# Altium integrated library Lattice CPLD ispMACH.IntLib: 663 symbols (part 42 of 48)
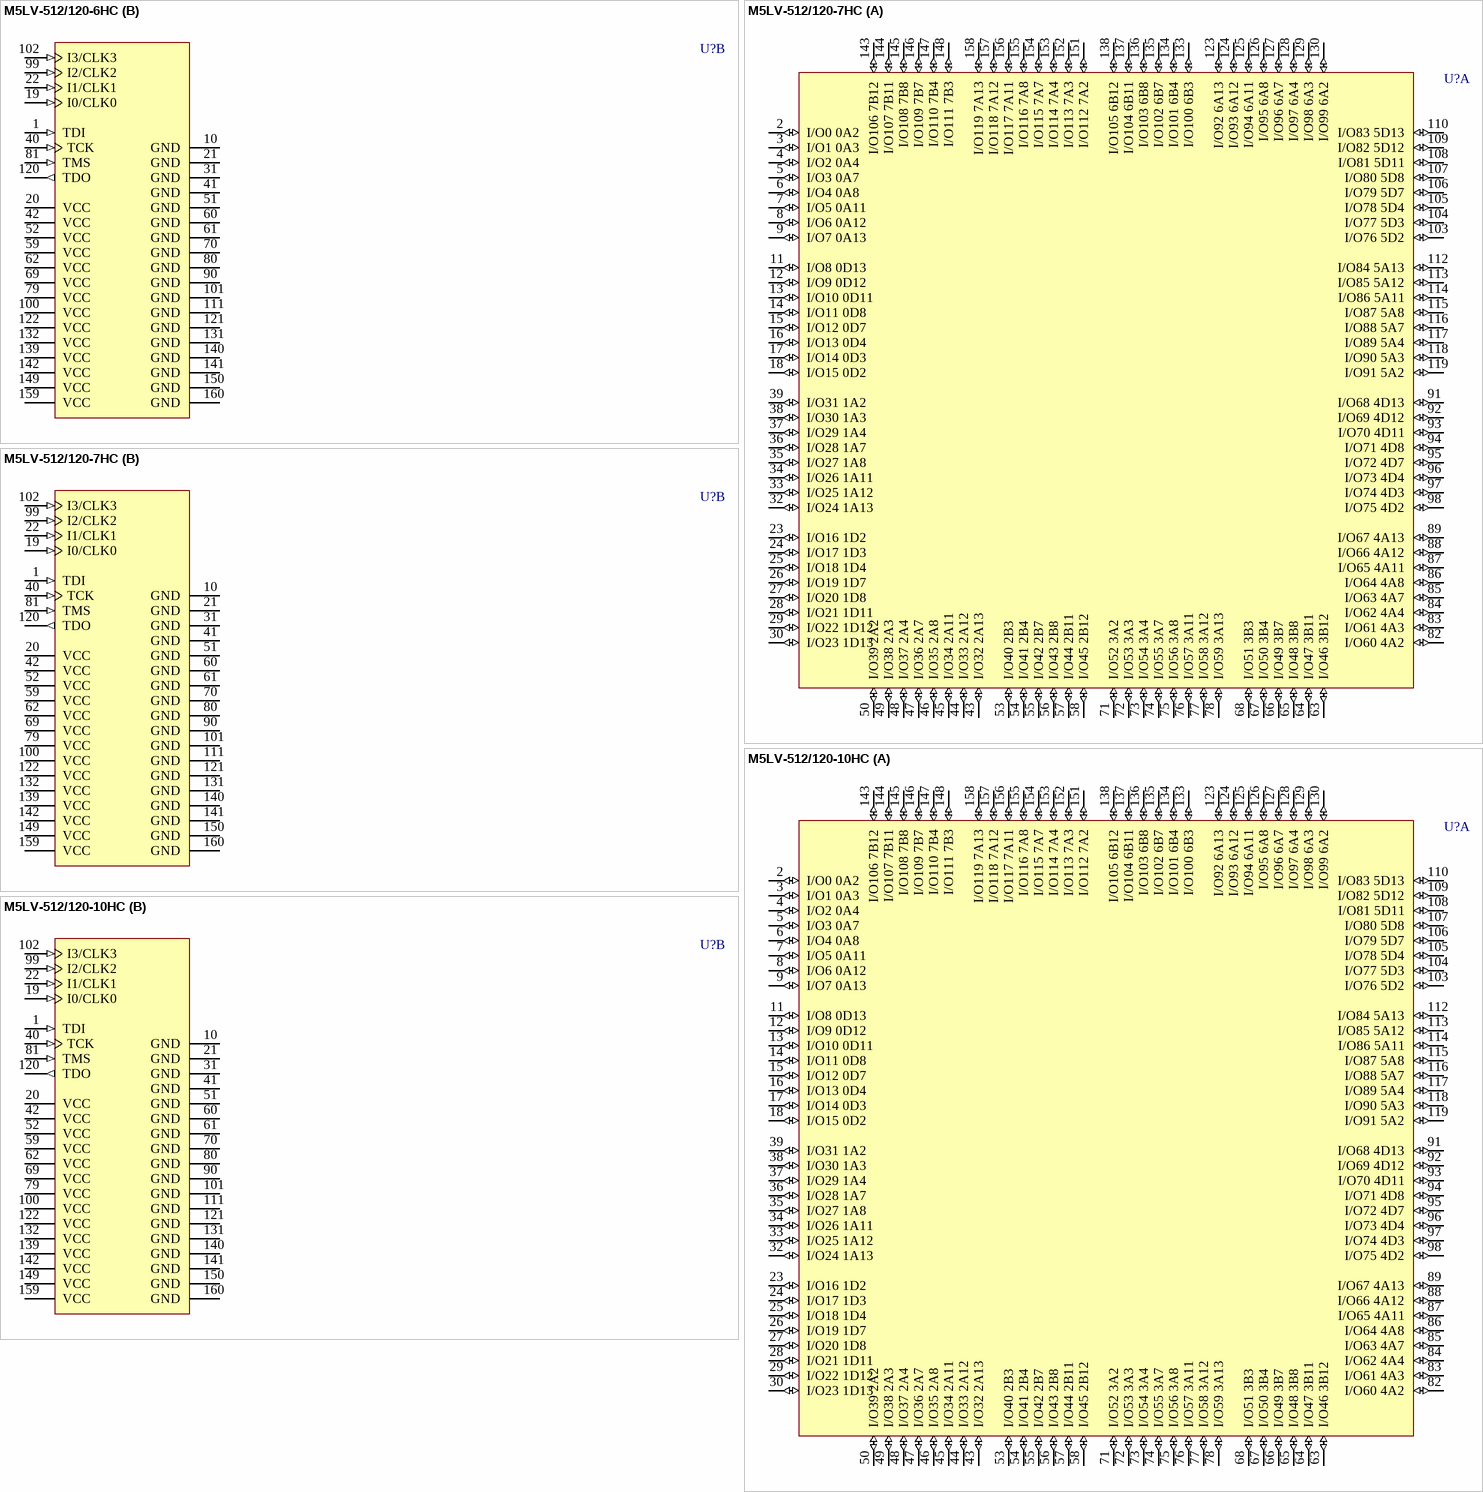
[diagram p347: symbols M5LV-512/120-6HC to M5LV-512/120-10HC]

## M5LV-512/120-6HC
designator U?
High-Density and High-I/O Complex PLD; Published: 23-Sep-2002; LatestRevisionDate: 13-Apr-2006; LatestRevisionNote: IPC-7351 Footprint Added.; DatasheetVersion: Sep-2000; PackageVersion: May-1999; PackageReference: MQFP160; Publisher: Altium Limited; PackageDescription: 160-Pin Quad Flat Pack 0.65 mm Pitch; Code_IPC: QFP65P3120X3120-160; ComponentLink1Description: Manufacturer Link; ComponentLink1URL: http://www.latticesemi.com/products/mature/index.cfm; ComponentLink2Description: Datasheet; ComponentLink2URL: http://www.latticesemi.com/lit/docs/datasheets/cpld/mach5.pdf
footprint MQFP160_N (QFP, 160-Leads, Body 27.7 x 27.7mm, Pitch 0.65mm, IPC Medium Density)
footprint MQFP160_L (QFP, 160-Leads, Body 27.7 x 27.7mm, Pitch 0.65mm, IPC High Density)
footprint MQFP160_M (QFP, 160-Leads, Body 27.7 x 27.7mm, Pitch 0.65mm, IPC Low Density)
3D model M5LV-MQFP160 (160-Pin Quad Flat Pack 0.65 mm Pitch)
part A pins: 2 I/O0 0A2 (io), 3 I/O1 0A3 (io), 4 I/O2 0A4 (io), 5 I/O3 0A7 (io), 6 I/O4 0A8 (io), 7 I/O5 0A11 (io), 8 I/O6 0A12 (io), 9 I/O7 0A13 (io), 11 I/O8 0D13 (io), 12 I/O9 0D12 (io), 13 I/O10 0D11 (io), 14 I/O11 0D8 (io), 15 I/O12 0D7 (io), 16 I/O13 0D4 (io), 17 I/O14 0D3 (io), 18 I/O15 0D2 (io), 23 I/O16 1D2 (io), 24 I/O17 1D3 (io), 25 I/O18 1D4 (io), 26 I/O19 1D7 (io), 27 I/O20 1D8 (io), 28 I/O21 1D11 (io), 29 I/O22 1D12 (io), 30 I/O23 1D13 (io), 32 I/O24 1A13 (io), 33 I/O25 1A12 (io), 34 I/O26 1A11 (io), 35 I/O27 1A8 (io), 36 I/O28 1A7 (io), 37 I/O29 1A4 (io), 38 I/O30 1A3 (io), 39 I/O31 1A2 (io), 43 I/O32 2A13 (io), 44 I/O33 2A12 (io), 45 I/O34 2A11 (io), 46 I/O35 2A8 (io), 47 I/O36 2A7 (io), 48 I/O37 2A4 (io), 49 I/O38 2A3 (io), 50 I/O39 2A2 (io), 53 I/O40 2B3 (io), 54 I/O41 2B4 (io), 55 I/O42 2B7 (io), 56 I/O43 2B8 (io), 57 I/O44 2B11 (io), 58 I/O45 2B12 (io), 63 I/O46 3B12 (io), 64 I/O47 3B11 (io), 65 I/O48 3B8 (io), 66 I/O49 3B7 (io), 67 I/O50 3B4 (io), 68 I/O51 3B3 (io), 71 I/O52 3A2 (io), 72 I/O53 3A3 (io), 73 I/O54 3A4 (io), 74 I/O55 3A7 (io), 75 I/O56 3A8 (io), 76 I/O57 3A11 (io), 77 I/O58 3A12 (io), 78 I/O59 3A13 (io), 82 I/O60 4A2 (io), 83 I/O61 4A3 (io), 84 I/O62 4A4 (io), 85 I/O63 4A7 (io), 86 I/O64 4A8 (io), 87 I/O65 4A11 (io), 88 I/O66 4A12 (io), 89 I/O67 4A13 (io), 91 I/O68 4D13 (io), 92 I/O69 4D12 (io), 93 I/O70 4D11 (io), 94 I/O71 4D8 (io), 95 I/O72 4D7 (io), 96 I/O73 4D4 (io), 97 I/O74 4D3 (io), 98 I/O75 4D2 (io), 103 I/O76 5D2 (io), 104 I/O77 5D3 (io), 105 I/O78 5D4 (io), 106 I/O79 5D7 (io), 107 I/O80 5D8 (io), 108 I/O81 5D11 (io), 109 I/O82 5D12 (io), 110 I/O83 5D13 (io), 112 I/O84 5A13 (io), 113 I/O85 5A12 (io), 114 I/O86 5A11 (io), 115 I/O87 5A8 (io), 116 I/O88 5A7 (io), 117 I/O89 5A4 (io), 118 I/O90 5A3 (io), 119 I/O91 5A2 (io), 123 I/O92 6A13 (io), 124 I/O93 6A12 (io), 125 I/O94 6A11 (io), 126 I/O95 6A8 (io), 127 I/O96 6A7 (io), 128 I/O97 6A4 (io), 129 I/O98 6A3 (io), 130 I/O99 6A2 (io), 133 I/O100 6B3 (io), 134 I/O101 6B4 (io), 135 I/O102 6B7 (io), 136 I/O103 6B8 (io), 137 I/O104 6B11 (io), 138 I/O105 6B12 (io), 143 I/O106 7B12 (io), 144 I/O107 7B11 (io), 145 I/O108 7B8 (io), 146 I/O109 7B7 (io), 147 I/O110 7B4 (io), 148 I/O111 7B3 (io), 151 I/O112 7A2 (io), 152 I/O113 7A3 (io), 153 I/O114 7A4 (io), 154 I/O115 7A7 (io), 155 I/O116 7A8 (io), 156 I/O117 7A11 (io), 157 I/O118 7A12 (io), 158 I/O119 7A13 (io)
part B pins: 1 TDI (in), 10 GND (power), 19 I0/CLK0 (in), 20 VCC (power), 21 GND (power), 22 I1/CLK1 (in), 31 GND (power), 40 TCK (in), 41 GND (power), 42 VCC (power), 51 GND (power), 52 VCC (power), 59 VCC (power), 60 GND (power), 61 GND (power), 62 VCC (power), 69 VCC (power), 70 GND (power), 79 VCC (power), 80 GND (power), 81 TMS (in), 90 GND (power), 99 I2/CLK2 (in), 100 VCC (power), 101 GND (power), 102 I3/CLK3 (in), 111 GND (power), 120 TDO (out), 121 GND (power), 122 VCC (power), 131 GND (power), 132 VCC (power), 139 VCC (power), 140 GND (power), 141 GND (power), 142 VCC (power), 149 VCC (power), 150 GND (power), 159 VCC (power), 160 GND (power)

## M5LV-512/120-7HC
designator U?
High-Density and High-I/O Complex PLD; Published: 23-Sep-2002; LatestRevisionDate: 13-Apr-2006; LatestRevisionNote: IPC-7351 Footprint Added.; DatasheetVersion: Sep-2000; PackageVersion: May-1999; PackageReference: MQFP160; Publisher: Altium Limited; PackageDescription: 160-Pin Quad Flat Pack 0.65 mm Pitch; Code_IPC: QFP65P3120X3120-160; ComponentLink1Description: Manufacturer Link; ComponentLink1URL: http://www.latticesemi.com/products/mature/index.cfm; ComponentLink2Description: Datasheet; ComponentLink2URL: http://www.latticesemi.com/lit/docs/datasheets/cpld/mach5.pdf
footprint MQFP160_N (QFP, 160-Leads, Body 27.7 x 27.7mm, Pitch 0.65mm, IPC Medium Density)
footprint MQFP160_L (QFP, 160-Leads, Body 27.7 x 27.7mm, Pitch 0.65mm, IPC High Density)
footprint MQFP160_M (QFP, 160-Leads, Body 27.7 x 27.7mm, Pitch 0.65mm, IPC Low Density)
3D model M5LV-MQFP160 (160-Pin Quad Flat Pack 0.65 mm Pitch)
part A pins: 2 I/O0 0A2 (io), 3 I/O1 0A3 (io), 4 I/O2 0A4 (io), 5 I/O3 0A7 (io), 6 I/O4 0A8 (io), 7 I/O5 0A11 (io), 8 I/O6 0A12 (io), 9 I/O7 0A13 (io), 11 I/O8 0D13 (io), 12 I/O9 0D12 (io), 13 I/O10 0D11 (io), 14 I/O11 0D8 (io), 15 I/O12 0D7 (io), 16 I/O13 0D4 (io), 17 I/O14 0D3 (io), 18 I/O15 0D2 (io), 23 I/O16 1D2 (io), 24 I/O17 1D3 (io), 25 I/O18 1D4 (io), 26 I/O19 1D7 (io), 27 I/O20 1D8 (io), 28 I/O21 1D11 (io), 29 I/O22 1D12 (io), 30 I/O23 1D13 (io), 32 I/O24 1A13 (io), 33 I/O25 1A12 (io), 34 I/O26 1A11 (io), 35 I/O27 1A8 (io), 36 I/O28 1A7 (io), 37 I/O29 1A4 (io), 38 I/O30 1A3 (io), 39 I/O31 1A2 (io), 43 I/O32 2A13 (io), 44 I/O33 2A12 (io), 45 I/O34 2A11 (io), 46 I/O35 2A8 (io), 47 I/O36 2A7 (io), 48 I/O37 2A4 (io), 49 I/O38 2A3 (io), 50 I/O39 2A2 (io), 53 I/O40 2B3 (io), 54 I/O41 2B4 (io), 55 I/O42 2B7 (io), 56 I/O43 2B8 (io), 57 I/O44 2B11 (io), 58 I/O45 2B12 (io), 63 I/O46 3B12 (io), 64 I/O47 3B11 (io), 65 I/O48 3B8 (io), 66 I/O49 3B7 (io), 67 I/O50 3B4 (io), 68 I/O51 3B3 (io), 71 I/O52 3A2 (io), 72 I/O53 3A3 (io), 73 I/O54 3A4 (io), 74 I/O55 3A7 (io), 75 I/O56 3A8 (io), 76 I/O57 3A11 (io), 77 I/O58 3A12 (io), 78 I/O59 3A13 (io), 82 I/O60 4A2 (io), 83 I/O61 4A3 (io), 84 I/O62 4A4 (io), 85 I/O63 4A7 (io), 86 I/O64 4A8 (io), 87 I/O65 4A11 (io), 88 I/O66 4A12 (io), 89 I/O67 4A13 (io), 91 I/O68 4D13 (io), 92 I/O69 4D12 (io), 93 I/O70 4D11 (io), 94 I/O71 4D8 (io), 95 I/O72 4D7 (io), 96 I/O73 4D4 (io), 97 I/O74 4D3 (io), 98 I/O75 4D2 (io), 103 I/O76 5D2 (io), 104 I/O77 5D3 (io), 105 I/O78 5D4 (io), 106 I/O79 5D7 (io), 107 I/O80 5D8 (io), 108 I/O81 5D11 (io), 109 I/O82 5D12 (io), 110 I/O83 5D13 (io), 112 I/O84 5A13 (io), 113 I/O85 5A12 (io), 114 I/O86 5A11 (io), 115 I/O87 5A8 (io), 116 I/O88 5A7 (io), 117 I/O89 5A4 (io), 118 I/O90 5A3 (io), 119 I/O91 5A2 (io), 123 I/O92 6A13 (io), 124 I/O93 6A12 (io), 125 I/O94 6A11 (io), 126 I/O95 6A8 (io), 127 I/O96 6A7 (io), 128 I/O97 6A4 (io), 129 I/O98 6A3 (io), 130 I/O99 6A2 (io), 133 I/O100 6B3 (io), 134 I/O101 6B4 (io), 135 I/O102 6B7 (io), 136 I/O103 6B8 (io), 137 I/O104 6B11 (io), 138 I/O105 6B12 (io), 143 I/O106 7B12 (io), 144 I/O107 7B11 (io), 145 I/O108 7B8 (io), 146 I/O109 7B7 (io), 147 I/O110 7B4 (io), 148 I/O111 7B3 (io), 151 I/O112 7A2 (io), 152 I/O113 7A3 (io), 153 I/O114 7A4 (io), 154 I/O115 7A7 (io), 155 I/O116 7A8 (io), 156 I/O117 7A11 (io), 157 I/O118 7A12 (io), 158 I/O119 7A13 (io)
part B pins: 1 TDI (in), 10 GND (power), 19 I0/CLK0 (in), 20 VCC (power), 21 GND (power), 22 I1/CLK1 (in), 31 GND (power), 40 TCK (in), 41 GND (power), 42 VCC (power), 51 GND (power), 52 VCC (power), 59 VCC (power), 60 GND (power), 61 GND (power), 62 VCC (power), 69 VCC (power), 70 GND (power), 79 VCC (power), 80 GND (power), 81 TMS (in), 90 GND (power), 99 I2/CLK2 (in), 100 VCC (power), 101 GND (power), 102 I3/CLK3 (in), 111 GND (power), 120 TDO (out), 121 GND (power), 122 VCC (power), 131 GND (power), 132 VCC (power), 139 VCC (power), 140 GND (power), 141 GND (power), 142 VCC (power), 149 VCC (power), 150 GND (power), 159 VCC (power), 160 GND (power)

## M5LV-512/120-10HC
designator U?
High-Density and High-I/O Complex PLD; Published: 23-Sep-2002; LatestRevisionDate: 13-Apr-2006; LatestRevisionNote: IPC-7351 Footprint Added.; DatasheetVersion: Sep-2000; PackageVersion: May-1999; PackageReference: MQFP160; Publisher: Altium Limited; PackageDescription: 160-Pin Quad Flat Pack 0.65 mm Pitch; Code_IPC: QFP65P3120X3120-160; ComponentLink1Description: Manufacturer Link; ComponentLink1URL: http://www.latticesemi.com/products/mature/index.cfm; ComponentLink2Description: Datasheet; ComponentLink2URL: http://www.latticesemi.com/lit/docs/datasheets/cpld/mach5.pdf
footprint MQFP160_N (QFP, 160-Leads, Body 27.7 x 27.7mm, Pitch 0.65mm, IPC Medium Density)
footprint MQFP160_L (QFP, 160-Leads, Body 27.7 x 27.7mm, Pitch 0.65mm, IPC High Density)
footprint MQFP160_M (QFP, 160-Leads, Body 27.7 x 27.7mm, Pitch 0.65mm, IPC Low Density)
3D model M5LV-MQFP160 (160-Pin Quad Flat Pack 0.65 mm Pitch)
part A pins: 2 I/O0 0A2 (io), 3 I/O1 0A3 (io), 4 I/O2 0A4 (io), 5 I/O3 0A7 (io), 6 I/O4 0A8 (io), 7 I/O5 0A11 (io), 8 I/O6 0A12 (io), 9 I/O7 0A13 (io), 11 I/O8 0D13 (io), 12 I/O9 0D12 (io), 13 I/O10 0D11 (io), 14 I/O11 0D8 (io), 15 I/O12 0D7 (io), 16 I/O13 0D4 (io), 17 I/O14 0D3 (io), 18 I/O15 0D2 (io), 23 I/O16 1D2 (io), 24 I/O17 1D3 (io), 25 I/O18 1D4 (io), 26 I/O19 1D7 (io), 27 I/O20 1D8 (io), 28 I/O21 1D11 (io), 29 I/O22 1D12 (io), 30 I/O23 1D13 (io), 32 I/O24 1A13 (io), 33 I/O25 1A12 (io), 34 I/O26 1A11 (io), 35 I/O27 1A8 (io), 36 I/O28 1A7 (io), 37 I/O29 1A4 (io), 38 I/O30 1A3 (io), 39 I/O31 1A2 (io), 43 I/O32 2A13 (io), 44 I/O33 2A12 (io), 45 I/O34 2A11 (io), 46 I/O35 2A8 (io), 47 I/O36 2A7 (io), 48 I/O37 2A4 (io), 49 I/O38 2A3 (io), 50 I/O39 2A2 (io), 53 I/O40 2B3 (io), 54 I/O41 2B4 (io), 55 I/O42 2B7 (io), 56 I/O43 2B8 (io), 57 I/O44 2B11 (io), 58 I/O45 2B12 (io), 63 I/O46 3B12 (io), 64 I/O47 3B11 (io), 65 I/O48 3B8 (io), 66 I/O49 3B7 (io), 67 I/O50 3B4 (io), 68 I/O51 3B3 (io), 71 I/O52 3A2 (io), 72 I/O53 3A3 (io), 73 I/O54 3A4 (io), 74 I/O55 3A7 (io), 75 I/O56 3A8 (io), 76 I/O57 3A11 (io), 77 I/O58 3A12 (io), 78 I/O59 3A13 (io), 82 I/O60 4A2 (io), 83 I/O61 4A3 (io), 84 I/O62 4A4 (io), 85 I/O63 4A7 (io), 86 I/O64 4A8 (io), 87 I/O65 4A11 (io), 88 I/O66 4A12 (io), 89 I/O67 4A13 (io), 91 I/O68 4D13 (io), 92 I/O69 4D12 (io), 93 I/O70 4D11 (io), 94 I/O71 4D8 (io), 95 I/O72 4D7 (io), 96 I/O73 4D4 (io), 97 I/O74 4D3 (io), 98 I/O75 4D2 (io), 103 I/O76 5D2 (io), 104 I/O77 5D3 (io), 105 I/O78 5D4 (io), 106 I/O79 5D7 (io), 107 I/O80 5D8 (io), 108 I/O81 5D11 (io), 109 I/O82 5D12 (io), 110 I/O83 5D13 (io), 112 I/O84 5A13 (io), 113 I/O85 5A12 (io), 114 I/O86 5A11 (io), 115 I/O87 5A8 (io), 116 I/O88 5A7 (io), 117 I/O89 5A4 (io), 118 I/O90 5A3 (io), 119 I/O91 5A2 (io), 123 I/O92 6A13 (io), 124 I/O93 6A12 (io), 125 I/O94 6A11 (io), 126 I/O95 6A8 (io), 127 I/O96 6A7 (io), 128 I/O97 6A4 (io), 129 I/O98 6A3 (io), 130 I/O99 6A2 (io), 133 I/O100 6B3 (io), 134 I/O101 6B4 (io), 135 I/O102 6B7 (io), 136 I/O103 6B8 (io), 137 I/O104 6B11 (io), 138 I/O105 6B12 (io), 143 I/O106 7B12 (io), 144 I/O107 7B11 (io), 145 I/O108 7B8 (io), 146 I/O109 7B7 (io), 147 I/O110 7B4 (io), 148 I/O111 7B3 (io), 151 I/O112 7A2 (io), 152 I/O113 7A3 (io), 153 I/O114 7A4 (io), 154 I/O115 7A7 (io), 155 I/O116 7A8 (io), 156 I/O117 7A11 (io), 157 I/O118 7A12 (io), 158 I/O119 7A13 (io)
part B pins: 1 TDI (in), 10 GND (power), 19 I0/CLK0 (in), 20 VCC (power), 21 GND (power), 22 I1/CLK1 (in), 31 GND (power), 40 TCK (in), 41 GND (power), 42 VCC (power), 51 GND (power), 52 VCC (power), 59 VCC (power), 60 GND (power), 61 GND (power), 62 VCC (power), 69 VCC (power), 70 GND (power), 79 VCC (power), 80 GND (power), 81 TMS (in), 90 GND (power), 99 I2/CLK2 (in), 100 VCC (power), 101 GND (power), 102 I3/CLK3 (in), 111 GND (power), 120 TDO (out), 121 GND (power), 122 VCC (power), 131 GND (power), 132 VCC (power), 139 VCC (power), 140 GND (power), 141 GND (power), 142 VCC (power), 149 VCC (power), 150 GND (power), 159 VCC (power), 160 GND (power)

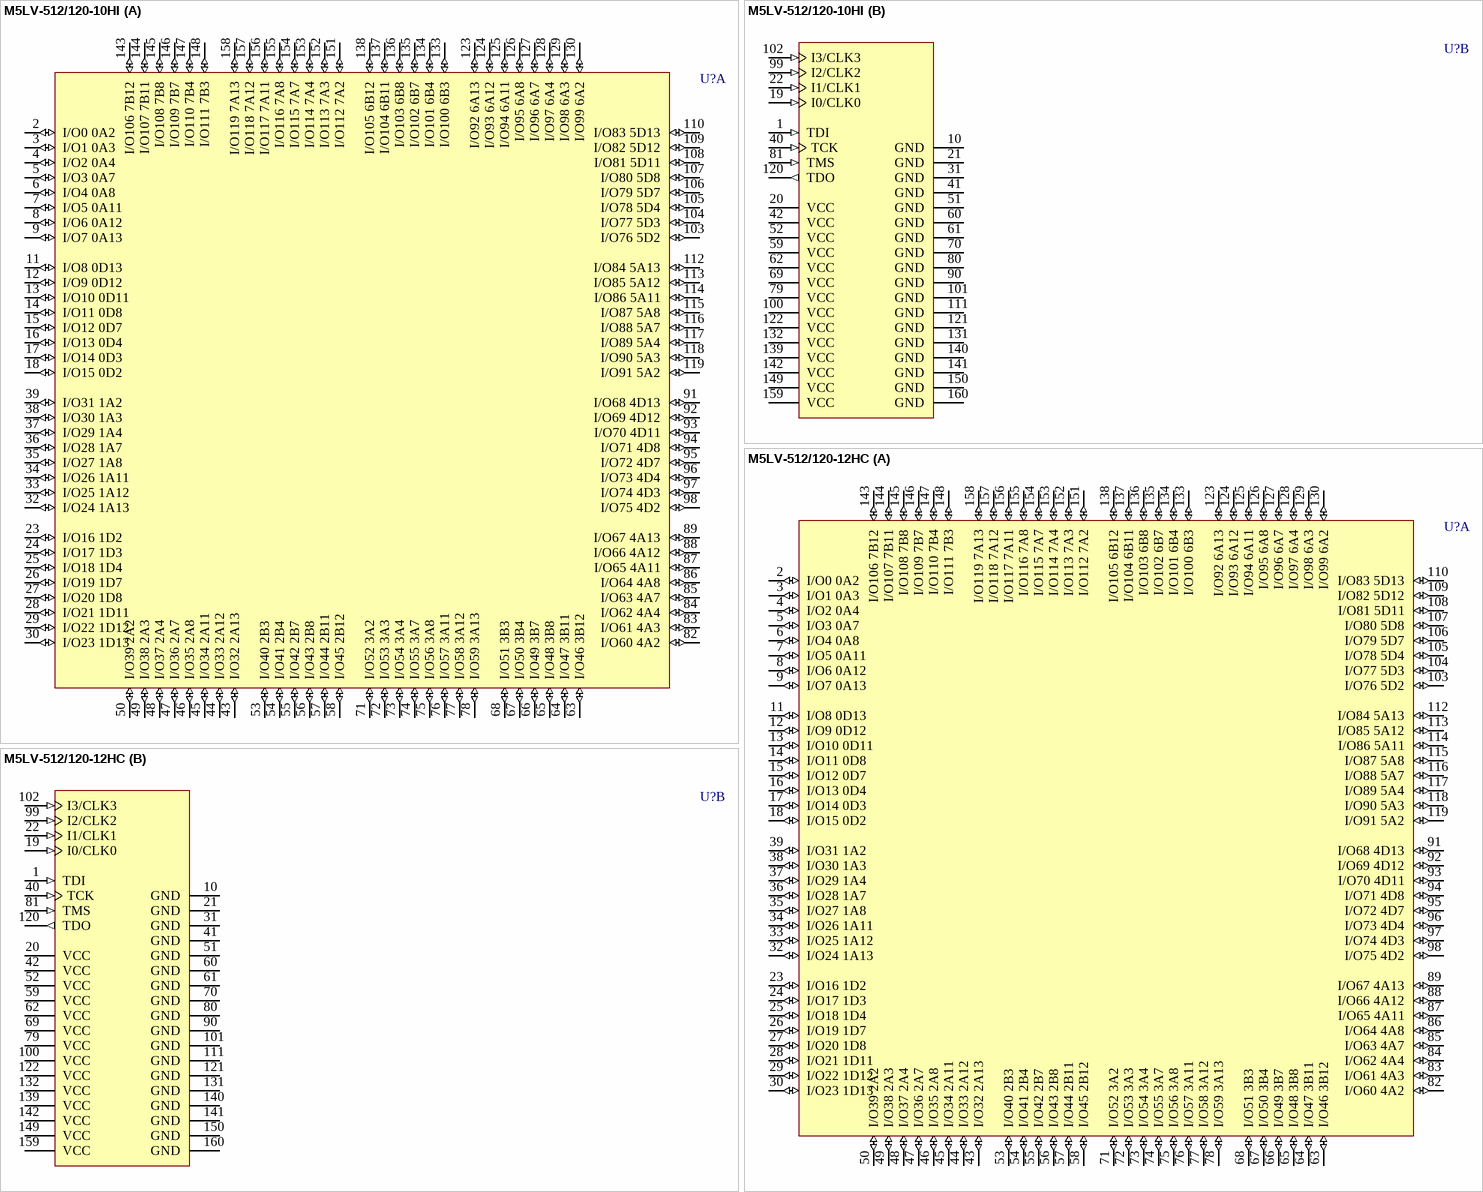
[diagram p259: symbols M5LV-512/120-10HI to M5LV-512/120-12HC]

## M5LV-512/120-10HI
designator U?
High-Density and High-I/O Complex PLD; Published: 23-Sep-2002; LatestRevisionDate: 13-Apr-2006; LatestRevisionNote: IPC-7351 Footprint Added.; DatasheetVersion: Sep-2000; PackageVersion: May-1999; PackageReference: MQFP160; Publisher: Altium Limited; PackageDescription: 160-Pin Quad Flat Pack 0.65 mm Pitch; Code_IPC: QFP65P3120X3120-160; ComponentLink1Description: Manufacturer Link; ComponentLink1URL: http://www.latticesemi.com/products/mature/index.cfm; ComponentLink2Description: Datasheet; ComponentLink2URL: http://www.latticesemi.com/lit/docs/datasheets/cpld/mach5.pdf
footprint MQFP160_N (QFP, 160-Leads, Body 27.7 x 27.7mm, Pitch 0.65mm, IPC Medium Density)
footprint MQFP160_L (QFP, 160-Leads, Body 27.7 x 27.7mm, Pitch 0.65mm, IPC High Density)
footprint MQFP160_M (QFP, 160-Leads, Body 27.7 x 27.7mm, Pitch 0.65mm, IPC Low Density)
3D model M5LV-MQFP160 (160-Pin Quad Flat Pack 0.65 mm Pitch)
part A pins: 2 I/O0 0A2 (io), 3 I/O1 0A3 (io), 4 I/O2 0A4 (io), 5 I/O3 0A7 (io), 6 I/O4 0A8 (io), 7 I/O5 0A11 (io), 8 I/O6 0A12 (io), 9 I/O7 0A13 (io), 11 I/O8 0D13 (io), 12 I/O9 0D12 (io), 13 I/O10 0D11 (io), 14 I/O11 0D8 (io), 15 I/O12 0D7 (io), 16 I/O13 0D4 (io), 17 I/O14 0D3 (io), 18 I/O15 0D2 (io), 23 I/O16 1D2 (io), 24 I/O17 1D3 (io), 25 I/O18 1D4 (io), 26 I/O19 1D7 (io), 27 I/O20 1D8 (io), 28 I/O21 1D11 (io), 29 I/O22 1D12 (io), 30 I/O23 1D13 (io), 32 I/O24 1A13 (io), 33 I/O25 1A12 (io), 34 I/O26 1A11 (io), 35 I/O27 1A8 (io), 36 I/O28 1A7 (io), 37 I/O29 1A4 (io), 38 I/O30 1A3 (io), 39 I/O31 1A2 (io), 43 I/O32 2A13 (io), 44 I/O33 2A12 (io), 45 I/O34 2A11 (io), 46 I/O35 2A8 (io), 47 I/O36 2A7 (io), 48 I/O37 2A4 (io), 49 I/O38 2A3 (io), 50 I/O39 2A2 (io), 53 I/O40 2B3 (io), 54 I/O41 2B4 (io), 55 I/O42 2B7 (io), 56 I/O43 2B8 (io), 57 I/O44 2B11 (io), 58 I/O45 2B12 (io), 63 I/O46 3B12 (io), 64 I/O47 3B11 (io), 65 I/O48 3B8 (io), 66 I/O49 3B7 (io), 67 I/O50 3B4 (io), 68 I/O51 3B3 (io), 71 I/O52 3A2 (io), 72 I/O53 3A3 (io), 73 I/O54 3A4 (io), 74 I/O55 3A7 (io), 75 I/O56 3A8 (io), 76 I/O57 3A11 (io), 77 I/O58 3A12 (io), 78 I/O59 3A13 (io), 82 I/O60 4A2 (io), 83 I/O61 4A3 (io), 84 I/O62 4A4 (io), 85 I/O63 4A7 (io), 86 I/O64 4A8 (io), 87 I/O65 4A11 (io), 88 I/O66 4A12 (io), 89 I/O67 4A13 (io), 91 I/O68 4D13 (io), 92 I/O69 4D12 (io), 93 I/O70 4D11 (io), 94 I/O71 4D8 (io), 95 I/O72 4D7 (io), 96 I/O73 4D4 (io), 97 I/O74 4D3 (io), 98 I/O75 4D2 (io), 103 I/O76 5D2 (io), 104 I/O77 5D3 (io), 105 I/O78 5D4 (io), 106 I/O79 5D7 (io), 107 I/O80 5D8 (io), 108 I/O81 5D11 (io), 109 I/O82 5D12 (io), 110 I/O83 5D13 (io), 112 I/O84 5A13 (io), 113 I/O85 5A12 (io), 114 I/O86 5A11 (io), 115 I/O87 5A8 (io), 116 I/O88 5A7 (io), 117 I/O89 5A4 (io), 118 I/O90 5A3 (io), 119 I/O91 5A2 (io), 123 I/O92 6A13 (io), 124 I/O93 6A12 (io), 125 I/O94 6A11 (io), 126 I/O95 6A8 (io), 127 I/O96 6A7 (io), 128 I/O97 6A4 (io), 129 I/O98 6A3 (io), 130 I/O99 6A2 (io), 133 I/O100 6B3 (io), 134 I/O101 6B4 (io), 135 I/O102 6B7 (io), 136 I/O103 6B8 (io), 137 I/O104 6B11 (io), 138 I/O105 6B12 (io), 143 I/O106 7B12 (io), 144 I/O107 7B11 (io), 145 I/O108 7B8 (io), 146 I/O109 7B7 (io), 147 I/O110 7B4 (io), 148 I/O111 7B3 (io), 151 I/O112 7A2 (io), 152 I/O113 7A3 (io), 153 I/O114 7A4 (io), 154 I/O115 7A7 (io), 155 I/O116 7A8 (io), 156 I/O117 7A11 (io), 157 I/O118 7A12 (io), 158 I/O119 7A13 (io)
part B pins: 1 TDI (in), 10 GND (power), 19 I0/CLK0 (in), 20 VCC (power), 21 GND (power), 22 I1/CLK1 (in), 31 GND (power), 40 TCK (in), 41 GND (power), 42 VCC (power), 51 GND (power), 52 VCC (power), 59 VCC (power), 60 GND (power), 61 GND (power), 62 VCC (power), 69 VCC (power), 70 GND (power), 79 VCC (power), 80 GND (power), 81 TMS (in), 90 GND (power), 99 I2/CLK2 (in), 100 VCC (power), 101 GND (power), 102 I3/CLK3 (in), 111 GND (power), 120 TDO (out), 121 GND (power), 122 VCC (power), 131 GND (power), 132 VCC (power), 139 VCC (power), 140 GND (power), 141 GND (power), 142 VCC (power), 149 VCC (power), 150 GND (power), 159 VCC (power), 160 GND (power)

## M5LV-512/120-12HC
designator U?
High-Density and High-I/O Complex PLD; Published: 23-Sep-2002; LatestRevisionDate: 13-Apr-2006; LatestRevisionNote: IPC-7351 Footprint Added.; DatasheetVersion: Sep-2000; PackageVersion: May-1999; PackageReference: MQFP160; Publisher: Altium Limited; PackageDescription: 160-Pin Quad Flat Pack 0.65 mm Pitch; Code_IPC: QFP65P3120X3120-160; ComponentLink1Description: Manufacturer Link; ComponentLink1URL: http://www.latticesemi.com/products/mature/index.cfm; ComponentLink2Description: Datasheet; ComponentLink2URL: http://www.latticesemi.com/lit/docs/datasheets/cpld/mach5.pdf
footprint MQFP160_N (QFP, 160-Leads, Body 27.7 x 27.7mm, Pitch 0.65mm, IPC Medium Density)
footprint MQFP160_L (QFP, 160-Leads, Body 27.7 x 27.7mm, Pitch 0.65mm, IPC High Density)
footprint MQFP160_M (QFP, 160-Leads, Body 27.7 x 27.7mm, Pitch 0.65mm, IPC Low Density)
3D model M5LV-MQFP160 (160-Pin Quad Flat Pack 0.65 mm Pitch)
part A pins: 2 I/O0 0A2 (io), 3 I/O1 0A3 (io), 4 I/O2 0A4 (io), 5 I/O3 0A7 (io), 6 I/O4 0A8 (io), 7 I/O5 0A11 (io), 8 I/O6 0A12 (io), 9 I/O7 0A13 (io), 11 I/O8 0D13 (io), 12 I/O9 0D12 (io), 13 I/O10 0D11 (io), 14 I/O11 0D8 (io), 15 I/O12 0D7 (io), 16 I/O13 0D4 (io), 17 I/O14 0D3 (io), 18 I/O15 0D2 (io), 23 I/O16 1D2 (io), 24 I/O17 1D3 (io), 25 I/O18 1D4 (io), 26 I/O19 1D7 (io), 27 I/O20 1D8 (io), 28 I/O21 1D11 (io), 29 I/O22 1D12 (io), 30 I/O23 1D13 (io), 32 I/O24 1A13 (io), 33 I/O25 1A12 (io), 34 I/O26 1A11 (io), 35 I/O27 1A8 (io), 36 I/O28 1A7 (io), 37 I/O29 1A4 (io), 38 I/O30 1A3 (io), 39 I/O31 1A2 (io), 43 I/O32 2A13 (io), 44 I/O33 2A12 (io), 45 I/O34 2A11 (io), 46 I/O35 2A8 (io), 47 I/O36 2A7 (io), 48 I/O37 2A4 (io), 49 I/O38 2A3 (io), 50 I/O39 2A2 (io), 53 I/O40 2B3 (io), 54 I/O41 2B4 (io), 55 I/O42 2B7 (io), 56 I/O43 2B8 (io), 57 I/O44 2B11 (io), 58 I/O45 2B12 (io), 63 I/O46 3B12 (io), 64 I/O47 3B11 (io), 65 I/O48 3B8 (io), 66 I/O49 3B7 (io), 67 I/O50 3B4 (io), 68 I/O51 3B3 (io), 71 I/O52 3A2 (io), 72 I/O53 3A3 (io), 73 I/O54 3A4 (io), 74 I/O55 3A7 (io), 75 I/O56 3A8 (io), 76 I/O57 3A11 (io), 77 I/O58 3A12 (io), 78 I/O59 3A13 (io), 82 I/O60 4A2 (io), 83 I/O61 4A3 (io), 84 I/O62 4A4 (io), 85 I/O63 4A7 (io), 86 I/O64 4A8 (io), 87 I/O65 4A11 (io), 88 I/O66 4A12 (io), 89 I/O67 4A13 (io), 91 I/O68 4D13 (io), 92 I/O69 4D12 (io), 93 I/O70 4D11 (io), 94 I/O71 4D8 (io), 95 I/O72 4D7 (io), 96 I/O73 4D4 (io), 97 I/O74 4D3 (io), 98 I/O75 4D2 (io), 103 I/O76 5D2 (io), 104 I/O77 5D3 (io), 105 I/O78 5D4 (io), 106 I/O79 5D7 (io), 107 I/O80 5D8 (io), 108 I/O81 5D11 (io), 109 I/O82 5D12 (io), 110 I/O83 5D13 (io), 112 I/O84 5A13 (io), 113 I/O85 5A12 (io), 114 I/O86 5A11 (io), 115 I/O87 5A8 (io), 116 I/O88 5A7 (io), 117 I/O89 5A4 (io), 118 I/O90 5A3 (io), 119 I/O91 5A2 (io), 123 I/O92 6A13 (io), 124 I/O93 6A12 (io), 125 I/O94 6A11 (io), 126 I/O95 6A8 (io), 127 I/O96 6A7 (io), 128 I/O97 6A4 (io), 129 I/O98 6A3 (io), 130 I/O99 6A2 (io), 133 I/O100 6B3 (io), 134 I/O101 6B4 (io), 135 I/O102 6B7 (io), 136 I/O103 6B8 (io), 137 I/O104 6B11 (io), 138 I/O105 6B12 (io), 143 I/O106 7B12 (io), 144 I/O107 7B11 (io), 145 I/O108 7B8 (io), 146 I/O109 7B7 (io), 147 I/O110 7B4 (io), 148 I/O111 7B3 (io), 151 I/O112 7A2 (io), 152 I/O113 7A3 (io), 153 I/O114 7A4 (io), 154 I/O115 7A7 (io), 155 I/O116 7A8 (io), 156 I/O117 7A11 (io), 157 I/O118 7A12 (io), 158 I/O119 7A13 (io)
part B pins: 1 TDI (in), 10 GND (power), 19 I0/CLK0 (in), 20 VCC (power), 21 GND (power), 22 I1/CLK1 (in), 31 GND (power), 40 TCK (in), 41 GND (power), 42 VCC (power), 51 GND (power), 52 VCC (power), 59 VCC (power), 60 GND (power), 61 GND (power), 62 VCC (power), 69 VCC (power), 70 GND (power), 79 VCC (power), 80 GND (power), 81 TMS (in), 90 GND (power), 99 I2/CLK2 (in), 100 VCC (power), 101 GND (power), 102 I3/CLK3 (in), 111 GND (power), 120 TDO (out), 121 GND (power), 122 VCC (power), 131 GND (power), 132 VCC (power), 139 VCC (power), 140 GND (power), 141 GND (power), 142 VCC (power), 149 VCC (power), 150 GND (power), 159 VCC (power), 160 GND (power)

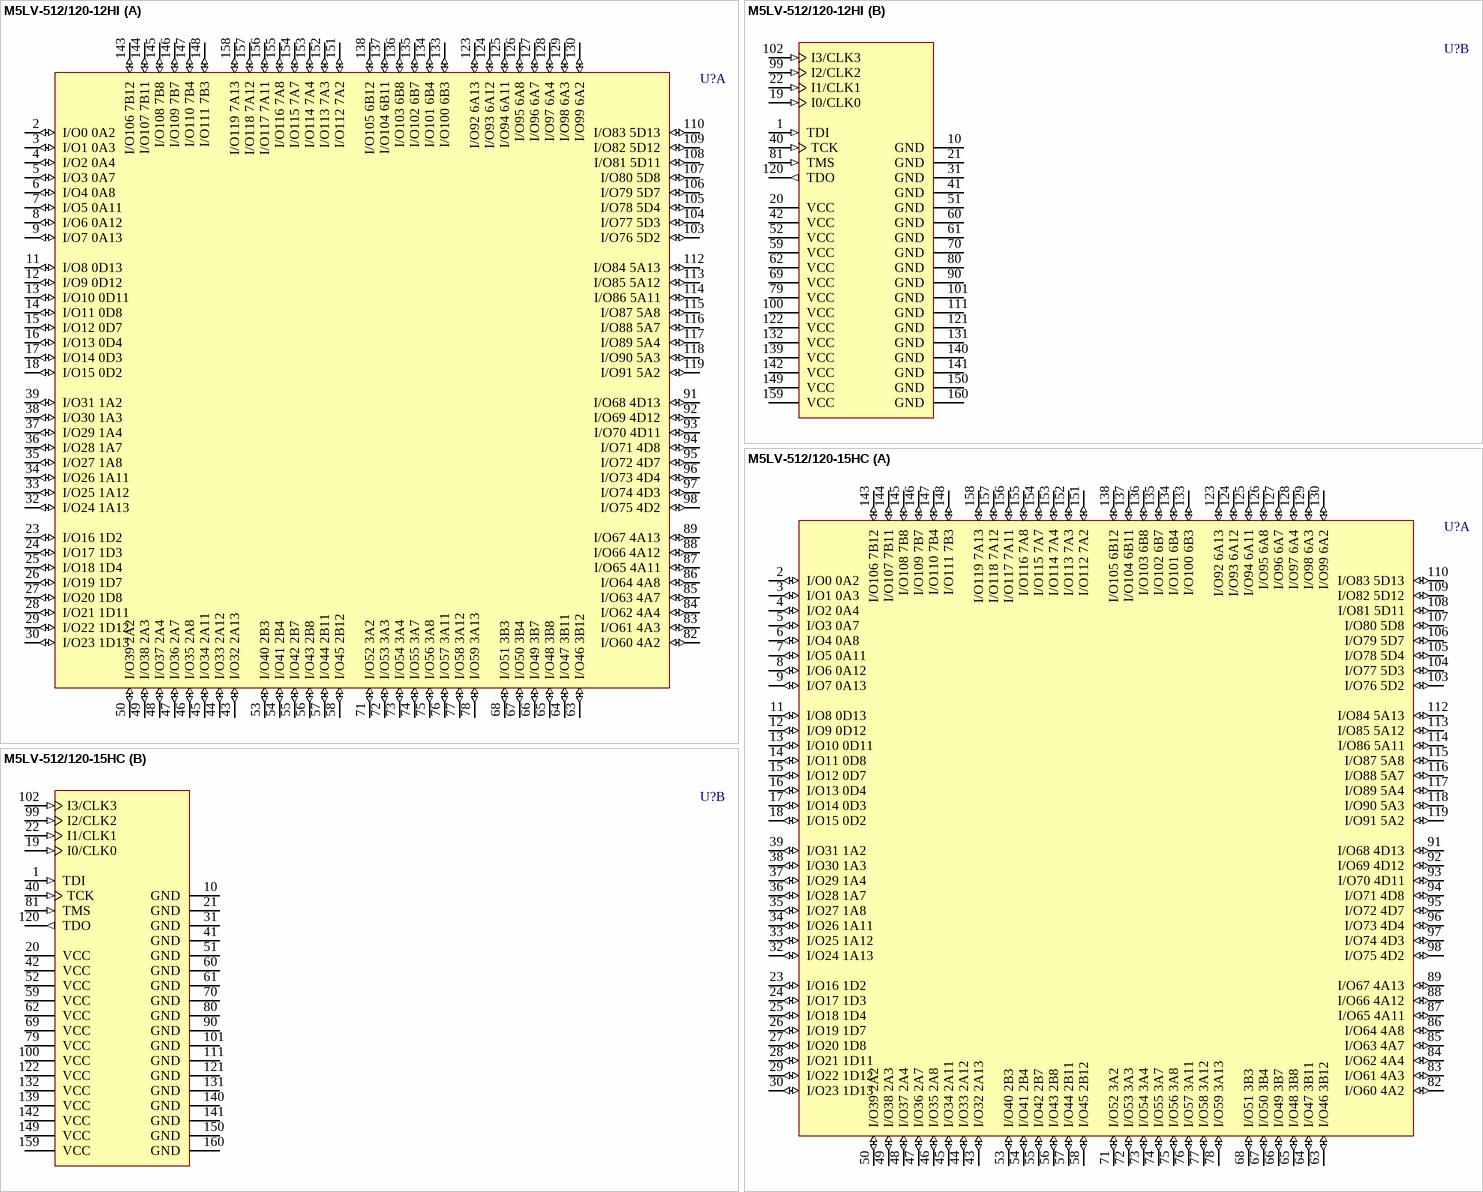
[diagram p260: symbols M5LV-512/120-12HI to M5LV-512/120-15HC]

## M5LV-512/120-12HI
designator U?
High-Density and High-I/O Complex PLD; Published: 23-Sep-2002; LatestRevisionDate: 13-Apr-2006; LatestRevisionNote: IPC-7351 Footprint Added.; DatasheetVersion: Sep-2000; PackageVersion: May-1999; PackageReference: MQFP160; Publisher: Altium Limited; PackageDescription: 160-Pin Quad Flat Pack 0.65 mm Pitch; Code_IPC: QFP65P3120X3120-160; ComponentLink1Description: Manufacturer Link; ComponentLink1URL: http://www.latticesemi.com/products/mature/index.cfm; ComponentLink2Description: Datasheet; ComponentLink2URL: http://www.latticesemi.com/lit/docs/datasheets/cpld/mach5.pdf
footprint MQFP160_N (QFP, 160-Leads, Body 27.7 x 27.7mm, Pitch 0.65mm, IPC Medium Density)
footprint MQFP160_L (QFP, 160-Leads, Body 27.7 x 27.7mm, Pitch 0.65mm, IPC High Density)
footprint MQFP160_M (QFP, 160-Leads, Body 27.7 x 27.7mm, Pitch 0.65mm, IPC Low Density)
3D model M5LV-MQFP160 (160-Pin Quad Flat Pack 0.65 mm Pitch)
part A pins: 2 I/O0 0A2 (io), 3 I/O1 0A3 (io), 4 I/O2 0A4 (io), 5 I/O3 0A7 (io), 6 I/O4 0A8 (io), 7 I/O5 0A11 (io), 8 I/O6 0A12 (io), 9 I/O7 0A13 (io), 11 I/O8 0D13 (io), 12 I/O9 0D12 (io), 13 I/O10 0D11 (io), 14 I/O11 0D8 (io), 15 I/O12 0D7 (io), 16 I/O13 0D4 (io), 17 I/O14 0D3 (io), 18 I/O15 0D2 (io), 23 I/O16 1D2 (io), 24 I/O17 1D3 (io), 25 I/O18 1D4 (io), 26 I/O19 1D7 (io), 27 I/O20 1D8 (io), 28 I/O21 1D11 (io), 29 I/O22 1D12 (io), 30 I/O23 1D13 (io), 32 I/O24 1A13 (io), 33 I/O25 1A12 (io), 34 I/O26 1A11 (io), 35 I/O27 1A8 (io), 36 I/O28 1A7 (io), 37 I/O29 1A4 (io), 38 I/O30 1A3 (io), 39 I/O31 1A2 (io), 43 I/O32 2A13 (io), 44 I/O33 2A12 (io), 45 I/O34 2A11 (io), 46 I/O35 2A8 (io), 47 I/O36 2A7 (io), 48 I/O37 2A4 (io), 49 I/O38 2A3 (io), 50 I/O39 2A2 (io), 53 I/O40 2B3 (io), 54 I/O41 2B4 (io), 55 I/O42 2B7 (io), 56 I/O43 2B8 (io), 57 I/O44 2B11 (io), 58 I/O45 2B12 (io), 63 I/O46 3B12 (io), 64 I/O47 3B11 (io), 65 I/O48 3B8 (io), 66 I/O49 3B7 (io), 67 I/O50 3B4 (io), 68 I/O51 3B3 (io), 71 I/O52 3A2 (io), 72 I/O53 3A3 (io), 73 I/O54 3A4 (io), 74 I/O55 3A7 (io), 75 I/O56 3A8 (io), 76 I/O57 3A11 (io), 77 I/O58 3A12 (io), 78 I/O59 3A13 (io), 82 I/O60 4A2 (io), 83 I/O61 4A3 (io), 84 I/O62 4A4 (io), 85 I/O63 4A7 (io), 86 I/O64 4A8 (io), 87 I/O65 4A11 (io), 88 I/O66 4A12 (io), 89 I/O67 4A13 (io), 91 I/O68 4D13 (io), 92 I/O69 4D12 (io), 93 I/O70 4D11 (io), 94 I/O71 4D8 (io), 95 I/O72 4D7 (io), 96 I/O73 4D4 (io), 97 I/O74 4D3 (io), 98 I/O75 4D2 (io), 103 I/O76 5D2 (io), 104 I/O77 5D3 (io), 105 I/O78 5D4 (io), 106 I/O79 5D7 (io), 107 I/O80 5D8 (io), 108 I/O81 5D11 (io), 109 I/O82 5D12 (io), 110 I/O83 5D13 (io), 112 I/O84 5A13 (io), 113 I/O85 5A12 (io), 114 I/O86 5A11 (io), 115 I/O87 5A8 (io), 116 I/O88 5A7 (io), 117 I/O89 5A4 (io), 118 I/O90 5A3 (io), 119 I/O91 5A2 (io), 123 I/O92 6A13 (io), 124 I/O93 6A12 (io), 125 I/O94 6A11 (io), 126 I/O95 6A8 (io), 127 I/O96 6A7 (io), 128 I/O97 6A4 (io), 129 I/O98 6A3 (io), 130 I/O99 6A2 (io), 133 I/O100 6B3 (io), 134 I/O101 6B4 (io), 135 I/O102 6B7 (io), 136 I/O103 6B8 (io), 137 I/O104 6B11 (io), 138 I/O105 6B12 (io), 143 I/O106 7B12 (io), 144 I/O107 7B11 (io), 145 I/O108 7B8 (io), 146 I/O109 7B7 (io), 147 I/O110 7B4 (io), 148 I/O111 7B3 (io), 151 I/O112 7A2 (io), 152 I/O113 7A3 (io), 153 I/O114 7A4 (io), 154 I/O115 7A7 (io), 155 I/O116 7A8 (io), 156 I/O117 7A11 (io), 157 I/O118 7A12 (io), 158 I/O119 7A13 (io)
part B pins: 1 TDI (in), 10 GND (power), 19 I0/CLK0 (in), 20 VCC (power), 21 GND (power), 22 I1/CLK1 (in), 31 GND (power), 40 TCK (in), 41 GND (power), 42 VCC (power), 51 GND (power), 52 VCC (power), 59 VCC (power), 60 GND (power), 61 GND (power), 62 VCC (power), 69 VCC (power), 70 GND (power), 79 VCC (power), 80 GND (power), 81 TMS (in), 90 GND (power), 99 I2/CLK2 (in), 100 VCC (power), 101 GND (power), 102 I3/CLK3 (in), 111 GND (power), 120 TDO (out), 121 GND (power), 122 VCC (power), 131 GND (power), 132 VCC (power), 139 VCC (power), 140 GND (power), 141 GND (power), 142 VCC (power), 149 VCC (power), 150 GND (power), 159 VCC (power), 160 GND (power)

## M5LV-512/120-15HC
designator U?
High-Density and High-I/O Complex PLD; Published: 23-Sep-2002; LatestRevisionDate: 13-Apr-2006; LatestRevisionNote: IPC-7351 Footprint Added.; DatasheetVersion: Sep-2000; PackageVersion: May-1999; PackageReference: MQFP160; Publisher: Altium Limited; PackageDescription: 160-Pin Quad Flat Pack 0.65 mm Pitch; Code_IPC: QFP65P3120X3120-160; ComponentLink1Description: Manufacturer Link; ComponentLink1URL: http://www.latticesemi.com/products/mature/index.cfm; ComponentLink2Description: Datasheet; ComponentLink2URL: http://www.latticesemi.com/lit/docs/datasheets/cpld/mach5.pdf
footprint MQFP160_N (QFP, 160-Leads, Body 27.7 x 27.7mm, Pitch 0.65mm, IPC Medium Density)
footprint MQFP160_L (QFP, 160-Leads, Body 27.7 x 27.7mm, Pitch 0.65mm, IPC High Density)
footprint MQFP160_M (QFP, 160-Leads, Body 27.7 x 27.7mm, Pitch 0.65mm, IPC Low Density)
3D model M5LV-MQFP160 (160-Pin Quad Flat Pack 0.65 mm Pitch)
part A pins: 2 I/O0 0A2 (io), 3 I/O1 0A3 (io), 4 I/O2 0A4 (io), 5 I/O3 0A7 (io), 6 I/O4 0A8 (io), 7 I/O5 0A11 (io), 8 I/O6 0A12 (io), 9 I/O7 0A13 (io), 11 I/O8 0D13 (io), 12 I/O9 0D12 (io), 13 I/O10 0D11 (io), 14 I/O11 0D8 (io), 15 I/O12 0D7 (io), 16 I/O13 0D4 (io), 17 I/O14 0D3 (io), 18 I/O15 0D2 (io), 23 I/O16 1D2 (io), 24 I/O17 1D3 (io), 25 I/O18 1D4 (io), 26 I/O19 1D7 (io), 27 I/O20 1D8 (io), 28 I/O21 1D11 (io), 29 I/O22 1D12 (io), 30 I/O23 1D13 (io), 32 I/O24 1A13 (io), 33 I/O25 1A12 (io), 34 I/O26 1A11 (io), 35 I/O27 1A8 (io), 36 I/O28 1A7 (io), 37 I/O29 1A4 (io), 38 I/O30 1A3 (io), 39 I/O31 1A2 (io), 43 I/O32 2A13 (io), 44 I/O33 2A12 (io), 45 I/O34 2A11 (io), 46 I/O35 2A8 (io), 47 I/O36 2A7 (io), 48 I/O37 2A4 (io), 49 I/O38 2A3 (io), 50 I/O39 2A2 (io), 53 I/O40 2B3 (io), 54 I/O41 2B4 (io), 55 I/O42 2B7 (io), 56 I/O43 2B8 (io), 57 I/O44 2B11 (io), 58 I/O45 2B12 (io), 63 I/O46 3B12 (io), 64 I/O47 3B11 (io), 65 I/O48 3B8 (io), 66 I/O49 3B7 (io), 67 I/O50 3B4 (io), 68 I/O51 3B3 (io), 71 I/O52 3A2 (io), 72 I/O53 3A3 (io), 73 I/O54 3A4 (io), 74 I/O55 3A7 (io), 75 I/O56 3A8 (io), 76 I/O57 3A11 (io), 77 I/O58 3A12 (io), 78 I/O59 3A13 (io), 82 I/O60 4A2 (io), 83 I/O61 4A3 (io), 84 I/O62 4A4 (io), 85 I/O63 4A7 (io), 86 I/O64 4A8 (io), 87 I/O65 4A11 (io), 88 I/O66 4A12 (io), 89 I/O67 4A13 (io), 91 I/O68 4D13 (io), 92 I/O69 4D12 (io), 93 I/O70 4D11 (io), 94 I/O71 4D8 (io), 95 I/O72 4D7 (io), 96 I/O73 4D4 (io), 97 I/O74 4D3 (io), 98 I/O75 4D2 (io), 103 I/O76 5D2 (io), 104 I/O77 5D3 (io), 105 I/O78 5D4 (io), 106 I/O79 5D7 (io), 107 I/O80 5D8 (io), 108 I/O81 5D11 (io), 109 I/O82 5D12 (io), 110 I/O83 5D13 (io), 112 I/O84 5A13 (io), 113 I/O85 5A12 (io), 114 I/O86 5A11 (io), 115 I/O87 5A8 (io), 116 I/O88 5A7 (io), 117 I/O89 5A4 (io), 118 I/O90 5A3 (io), 119 I/O91 5A2 (io), 123 I/O92 6A13 (io), 124 I/O93 6A12 (io), 125 I/O94 6A11 (io), 126 I/O95 6A8 (io), 127 I/O96 6A7 (io), 128 I/O97 6A4 (io), 129 I/O98 6A3 (io), 130 I/O99 6A2 (io), 133 I/O100 6B3 (io), 134 I/O101 6B4 (io), 135 I/O102 6B7 (io), 136 I/O103 6B8 (io), 137 I/O104 6B11 (io), 138 I/O105 6B12 (io), 143 I/O106 7B12 (io), 144 I/O107 7B11 (io), 145 I/O108 7B8 (io), 146 I/O109 7B7 (io), 147 I/O110 7B4 (io), 148 I/O111 7B3 (io), 151 I/O112 7A2 (io), 152 I/O113 7A3 (io), 153 I/O114 7A4 (io), 154 I/O115 7A7 (io), 155 I/O116 7A8 (io), 156 I/O117 7A11 (io), 157 I/O118 7A12 (io), 158 I/O119 7A13 (io)
part B pins: 1 TDI (in), 10 GND (power), 19 I0/CLK0 (in), 20 VCC (power), 21 GND (power), 22 I1/CLK1 (in), 31 GND (power), 40 TCK (in), 41 GND (power), 42 VCC (power), 51 GND (power), 52 VCC (power), 59 VCC (power), 60 GND (power), 61 GND (power), 62 VCC (power), 69 VCC (power), 70 GND (power), 79 VCC (power), 80 GND (power), 81 TMS (in), 90 GND (power), 99 I2/CLK2 (in), 100 VCC (power), 101 GND (power), 102 I3/CLK3 (in), 111 GND (power), 120 TDO (out), 121 GND (power), 122 VCC (power), 131 GND (power), 132 VCC (power), 139 VCC (power), 140 GND (power), 141 GND (power), 142 VCC (power), 149 VCC (power), 150 GND (power), 159 VCC (power), 160 GND (power)

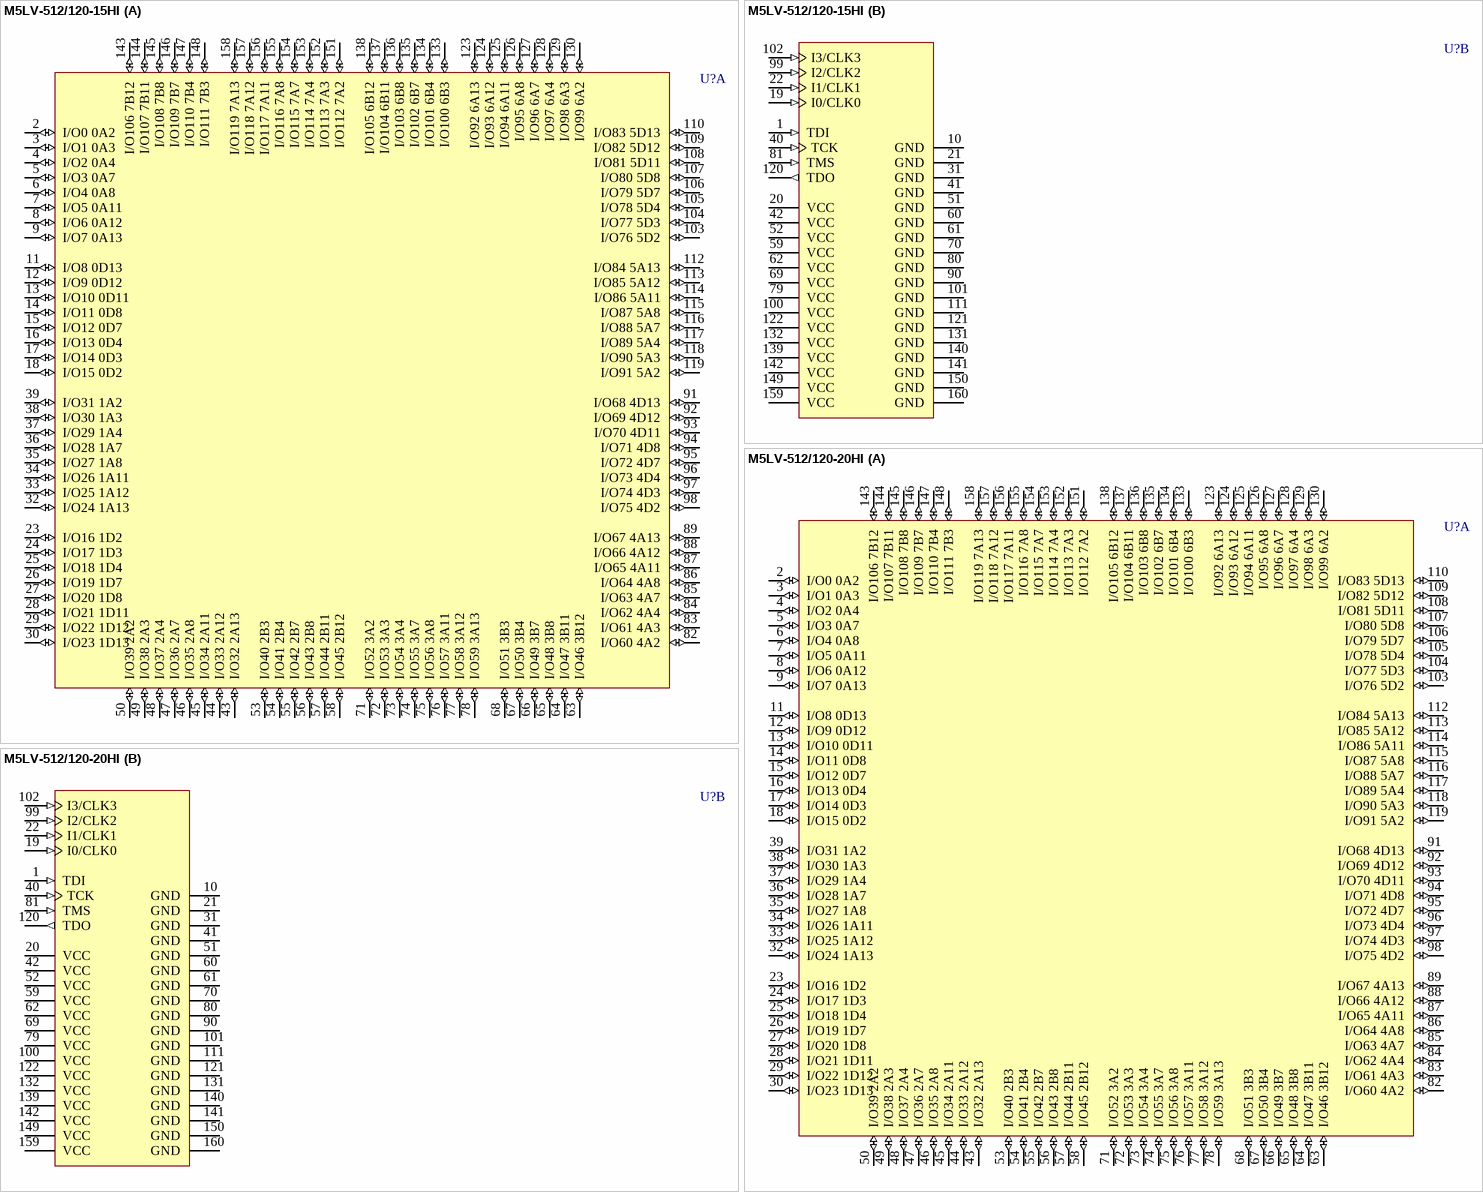
[diagram p261: symbols M5LV-512/120-15HI to M5LV-512/120-20HI]

## M5LV-512/120-15HI
designator U?
High-Density and High-I/O Complex PLD; Published: 23-Sep-2002; LatestRevisionDate: 13-Apr-2006; LatestRevisionNote: IPC-7351 Footprint Added.; DatasheetVersion: Sep-2000; PackageVersion: May-1999; PackageReference: MQFP160; Publisher: Altium Limited; PackageDescription: 160-Pin Quad Flat Pack 0.65 mm Pitch; Code_IPC: QFP65P3120X3120-160; ComponentLink1Description: Manufacturer Link; ComponentLink1URL: http://www.latticesemi.com/products/mature/index.cfm; ComponentLink2Description: Datasheet; ComponentLink2URL: http://www.latticesemi.com/lit/docs/datasheets/cpld/mach5.pdf
footprint MQFP160_N (QFP, 160-Leads, Body 27.7 x 27.7mm, Pitch 0.65mm, IPC Medium Density)
footprint MQFP160_L (QFP, 160-Leads, Body 27.7 x 27.7mm, Pitch 0.65mm, IPC High Density)
footprint MQFP160_M (QFP, 160-Leads, Body 27.7 x 27.7mm, Pitch 0.65mm, IPC Low Density)
3D model M5LV-MQFP160 (160-Pin Quad Flat Pack 0.65 mm Pitch)
part A pins: 2 I/O0 0A2 (io), 3 I/O1 0A3 (io), 4 I/O2 0A4 (io), 5 I/O3 0A7 (io), 6 I/O4 0A8 (io), 7 I/O5 0A11 (io), 8 I/O6 0A12 (io), 9 I/O7 0A13 (io), 11 I/O8 0D13 (io), 12 I/O9 0D12 (io), 13 I/O10 0D11 (io), 14 I/O11 0D8 (io), 15 I/O12 0D7 (io), 16 I/O13 0D4 (io), 17 I/O14 0D3 (io), 18 I/O15 0D2 (io), 23 I/O16 1D2 (io), 24 I/O17 1D3 (io), 25 I/O18 1D4 (io), 26 I/O19 1D7 (io), 27 I/O20 1D8 (io), 28 I/O21 1D11 (io), 29 I/O22 1D12 (io), 30 I/O23 1D13 (io), 32 I/O24 1A13 (io), 33 I/O25 1A12 (io), 34 I/O26 1A11 (io), 35 I/O27 1A8 (io), 36 I/O28 1A7 (io), 37 I/O29 1A4 (io), 38 I/O30 1A3 (io), 39 I/O31 1A2 (io), 43 I/O32 2A13 (io), 44 I/O33 2A12 (io), 45 I/O34 2A11 (io), 46 I/O35 2A8 (io), 47 I/O36 2A7 (io), 48 I/O37 2A4 (io), 49 I/O38 2A3 (io), 50 I/O39 2A2 (io), 53 I/O40 2B3 (io), 54 I/O41 2B4 (io), 55 I/O42 2B7 (io), 56 I/O43 2B8 (io), 57 I/O44 2B11 (io), 58 I/O45 2B12 (io), 63 I/O46 3B12 (io), 64 I/O47 3B11 (io), 65 I/O48 3B8 (io), 66 I/O49 3B7 (io), 67 I/O50 3B4 (io), 68 I/O51 3B3 (io), 71 I/O52 3A2 (io), 72 I/O53 3A3 (io), 73 I/O54 3A4 (io), 74 I/O55 3A7 (io), 75 I/O56 3A8 (io), 76 I/O57 3A11 (io), 77 I/O58 3A12 (io), 78 I/O59 3A13 (io), 82 I/O60 4A2 (io), 83 I/O61 4A3 (io), 84 I/O62 4A4 (io), 85 I/O63 4A7 (io), 86 I/O64 4A8 (io), 87 I/O65 4A11 (io), 88 I/O66 4A12 (io), 89 I/O67 4A13 (io), 91 I/O68 4D13 (io), 92 I/O69 4D12 (io), 93 I/O70 4D11 (io), 94 I/O71 4D8 (io), 95 I/O72 4D7 (io), 96 I/O73 4D4 (io), 97 I/O74 4D3 (io), 98 I/O75 4D2 (io), 103 I/O76 5D2 (io), 104 I/O77 5D3 (io), 105 I/O78 5D4 (io), 106 I/O79 5D7 (io), 107 I/O80 5D8 (io), 108 I/O81 5D11 (io), 109 I/O82 5D12 (io), 110 I/O83 5D13 (io), 112 I/O84 5A13 (io), 113 I/O85 5A12 (io), 114 I/O86 5A11 (io), 115 I/O87 5A8 (io), 116 I/O88 5A7 (io), 117 I/O89 5A4 (io), 118 I/O90 5A3 (io), 119 I/O91 5A2 (io), 123 I/O92 6A13 (io), 124 I/O93 6A12 (io), 125 I/O94 6A11 (io), 126 I/O95 6A8 (io), 127 I/O96 6A7 (io), 128 I/O97 6A4 (io), 129 I/O98 6A3 (io), 130 I/O99 6A2 (io), 133 I/O100 6B3 (io), 134 I/O101 6B4 (io), 135 I/O102 6B7 (io), 136 I/O103 6B8 (io), 137 I/O104 6B11 (io), 138 I/O105 6B12 (io), 143 I/O106 7B12 (io), 144 I/O107 7B11 (io), 145 I/O108 7B8 (io), 146 I/O109 7B7 (io), 147 I/O110 7B4 (io), 148 I/O111 7B3 (io), 151 I/O112 7A2 (io), 152 I/O113 7A3 (io), 153 I/O114 7A4 (io), 154 I/O115 7A7 (io), 155 I/O116 7A8 (io), 156 I/O117 7A11 (io), 157 I/O118 7A12 (io), 158 I/O119 7A13 (io)
part B pins: 1 TDI (in), 10 GND (power), 19 I0/CLK0 (in), 20 VCC (power), 21 GND (power), 22 I1/CLK1 (in), 31 GND (power), 40 TCK (in), 41 GND (power), 42 VCC (power), 51 GND (power), 52 VCC (power), 59 VCC (power), 60 GND (power), 61 GND (power), 62 VCC (power), 69 VCC (power), 70 GND (power), 79 VCC (power), 80 GND (power), 81 TMS (in), 90 GND (power), 99 I2/CLK2 (in), 100 VCC (power), 101 GND (power), 102 I3/CLK3 (in), 111 GND (power), 120 TDO (out), 121 GND (power), 122 VCC (power), 131 GND (power), 132 VCC (power), 139 VCC (power), 140 GND (power), 141 GND (power), 142 VCC (power), 149 VCC (power), 150 GND (power), 159 VCC (power), 160 GND (power)

## M5LV-512/120-20HI
designator U?
High-Density and High-I/O Complex PLD; Published: 23-Sep-2002; LatestRevisionDate: 13-Apr-2006; LatestRevisionNote: IPC-7351 Footprint Added.; DatasheetVersion: Sep-2000; PackageVersion: May-1999; PackageReference: MQFP160; Publisher: Altium Limited; PackageDescription: 160-Pin Quad Flat Pack 0.65 mm Pitch; Code_IPC: QFP65P3120X3120-160; ComponentLink1Description: Manufacturer Link; ComponentLink1URL: http://www.latticesemi.com/products/mature/index.cfm; ComponentLink2Description: Datasheet; ComponentLink2URL: http://www.latticesemi.com/lit/docs/datasheets/cpld/mach5.pdf
footprint MQFP160_N (QFP, 160-Leads, Body 27.7 x 27.7mm, Pitch 0.65mm, IPC Medium Density)
footprint MQFP160_L (QFP, 160-Leads, Body 27.7 x 27.7mm, Pitch 0.65mm, IPC High Density)
footprint MQFP160_M (QFP, 160-Leads, Body 27.7 x 27.7mm, Pitch 0.65mm, IPC Low Density)
3D model M5LV-MQFP160 (160-Pin Quad Flat Pack 0.65 mm Pitch)
part A pins: 2 I/O0 0A2 (io), 3 I/O1 0A3 (io), 4 I/O2 0A4 (io), 5 I/O3 0A7 (io), 6 I/O4 0A8 (io), 7 I/O5 0A11 (io), 8 I/O6 0A12 (io), 9 I/O7 0A13 (io), 11 I/O8 0D13 (io), 12 I/O9 0D12 (io), 13 I/O10 0D11 (io), 14 I/O11 0D8 (io), 15 I/O12 0D7 (io), 16 I/O13 0D4 (io), 17 I/O14 0D3 (io), 18 I/O15 0D2 (io), 23 I/O16 1D2 (io), 24 I/O17 1D3 (io), 25 I/O18 1D4 (io), 26 I/O19 1D7 (io), 27 I/O20 1D8 (io), 28 I/O21 1D11 (io), 29 I/O22 1D12 (io), 30 I/O23 1D13 (io), 32 I/O24 1A13 (io), 33 I/O25 1A12 (io), 34 I/O26 1A11 (io), 35 I/O27 1A8 (io), 36 I/O28 1A7 (io), 37 I/O29 1A4 (io), 38 I/O30 1A3 (io), 39 I/O31 1A2 (io), 43 I/O32 2A13 (io), 44 I/O33 2A12 (io), 45 I/O34 2A11 (io), 46 I/O35 2A8 (io), 47 I/O36 2A7 (io), 48 I/O37 2A4 (io), 49 I/O38 2A3 (io), 50 I/O39 2A2 (io), 53 I/O40 2B3 (io), 54 I/O41 2B4 (io), 55 I/O42 2B7 (io), 56 I/O43 2B8 (io), 57 I/O44 2B11 (io), 58 I/O45 2B12 (io), 63 I/O46 3B12 (io), 64 I/O47 3B11 (io), 65 I/O48 3B8 (io), 66 I/O49 3B7 (io), 67 I/O50 3B4 (io), 68 I/O51 3B3 (io), 71 I/O52 3A2 (io), 72 I/O53 3A3 (io), 73 I/O54 3A4 (io), 74 I/O55 3A7 (io), 75 I/O56 3A8 (io), 76 I/O57 3A11 (io), 77 I/O58 3A12 (io), 78 I/O59 3A13 (io), 82 I/O60 4A2 (io), 83 I/O61 4A3 (io), 84 I/O62 4A4 (io), 85 I/O63 4A7 (io), 86 I/O64 4A8 (io), 87 I/O65 4A11 (io), 88 I/O66 4A12 (io), 89 I/O67 4A13 (io), 91 I/O68 4D13 (io), 92 I/O69 4D12 (io), 93 I/O70 4D11 (io), 94 I/O71 4D8 (io), 95 I/O72 4D7 (io), 96 I/O73 4D4 (io), 97 I/O74 4D3 (io), 98 I/O75 4D2 (io), 103 I/O76 5D2 (io), 104 I/O77 5D3 (io), 105 I/O78 5D4 (io), 106 I/O79 5D7 (io), 107 I/O80 5D8 (io), 108 I/O81 5D11 (io), 109 I/O82 5D12 (io), 110 I/O83 5D13 (io), 112 I/O84 5A13 (io), 113 I/O85 5A12 (io), 114 I/O86 5A11 (io), 115 I/O87 5A8 (io), 116 I/O88 5A7 (io), 117 I/O89 5A4 (io), 118 I/O90 5A3 (io), 119 I/O91 5A2 (io), 123 I/O92 6A13 (io), 124 I/O93 6A12 (io), 125 I/O94 6A11 (io), 126 I/O95 6A8 (io), 127 I/O96 6A7 (io), 128 I/O97 6A4 (io), 129 I/O98 6A3 (io), 130 I/O99 6A2 (io), 133 I/O100 6B3 (io), 134 I/O101 6B4 (io), 135 I/O102 6B7 (io), 136 I/O103 6B8 (io), 137 I/O104 6B11 (io), 138 I/O105 6B12 (io), 143 I/O106 7B12 (io), 144 I/O107 7B11 (io), 145 I/O108 7B8 (io), 146 I/O109 7B7 (io), 147 I/O110 7B4 (io), 148 I/O111 7B3 (io), 151 I/O112 7A2 (io), 152 I/O113 7A3 (io), 153 I/O114 7A4 (io), 154 I/O115 7A7 (io), 155 I/O116 7A8 (io), 156 I/O117 7A11 (io), 157 I/O118 7A12 (io), 158 I/O119 7A13 (io)
part B pins: 1 TDI (in), 10 GND (power), 19 I0/CLK0 (in), 20 VCC (power), 21 GND (power), 22 I1/CLK1 (in), 31 GND (power), 40 TCK (in), 41 GND (power), 42 VCC (power), 51 GND (power), 52 VCC (power), 59 VCC (power), 60 GND (power), 61 GND (power), 62 VCC (power), 69 VCC (power), 70 GND (power), 79 VCC (power), 80 GND (power), 81 TMS (in), 90 GND (power), 99 I2/CLK2 (in), 100 VCC (power), 101 GND (power), 102 I3/CLK3 (in), 111 GND (power), 120 TDO (out), 121 GND (power), 122 VCC (power), 131 GND (power), 132 VCC (power), 139 VCC (power), 140 GND (power), 141 GND (power), 142 VCC (power), 149 VCC (power), 150 GND (power), 159 VCC (power), 160 GND (power)

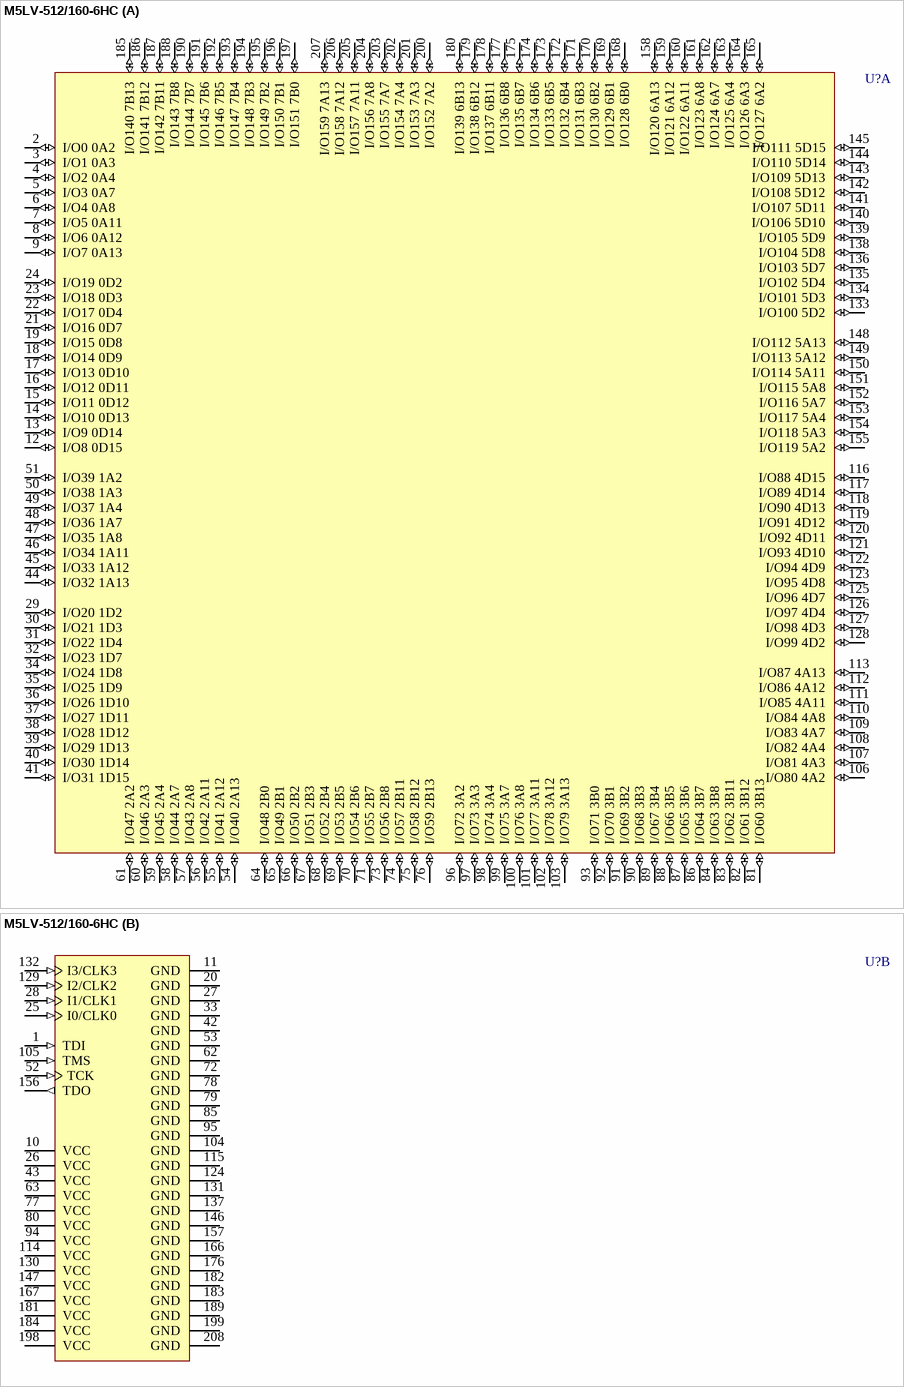
[diagram p262: symbol M5LV-512/160-6HC]

## M5LV-512/160-6HC
designator U?
High-Density and High-I/O Complex PLD; Published: 23-Sep-2002; LatestRevisionDate: 13-Apr-2006; LatestRevisionNote: IPC-7351 Footprint Added.; DatasheetVersion: Sep-2000; PackageVersion: Sep-2000; PackageReference: MQFP208; Publisher: Altium Limited; PackageDescription: 208-Pin Shrink Quad Flat Pack 0.5 mm Pitch; ComponentLink1Description: Manufacturer Link; ComponentLink1URL: http://www.latticesemi.com/products/mature/index.cfm; ComponentLink2Description: Datasheet; ComponentLink2URL: http://www.latticesemi.com/lit/docs/datasheets/cpld/mach5.pdf
footprint MQFP208_N (Shrink QFP, 208-Leads, Body 27.7x27.7mm, Pitch 0.5mm, IPC Medium Density)
footprint MQFP208_L (Shrink QFP, 208-Leads, Body 27.7x27.7mm, Pitch 0.5mm, IPC High Density)
footprint MQFP208_M (Shrink QFP, 208-Leads, Body 27.7x27.7mm, Pitch 0.5mm, IPC Low Density)
3D model M5LV-MQFP208 (208-Pin Shrink Quad Flat Pack 0.5 mm Pitch)
part A pins: 2 I/O0 0A2 (io), 3 I/O1 0A3 (io), 4 I/O2 0A4 (io), 5 I/O3 0A7 (io), 6 I/O4 0A8 (io), 7 I/O5 0A11 (io), 8 I/O6 0A12 (io), 9 I/O7 0A13 (io), 12 I/O8 0D15 (io), 13 I/O9 0D14 (io), 14 I/O10 0D13 (io), 15 I/O11 0D12 (io), 16 I/O12 0D11 (io), 17 I/O13 0D10 (io), 18 I/O14 0D9 (io), 19 I/O15 0D8 (io), 21 I/O16 0D7 (io), 22 I/O17 0D4 (io), 23 I/O18 0D3 (io), 24 I/O19 0D2 (io), 29 I/O20 1D2 (io), 30 I/O21 1D3 (io), 31 I/O22 1D4 (io), 32 I/O23 1D7 (io), 34 I/O24 1D8 (io), 35 I/O25 1D9 (io), 36 I/O26 1D10 (io), 37 I/O27 1D11 (io), 38 I/O28 1D12 (io), 39 I/O29 1D13 (io), 40 I/O30 1D14 (io), 41 I/O31 1D15 (io), 44 I/O32 1A13 (io), 45 I/O33 1A12 (io), 46 I/O34 1A11 (io), 47 I/O35 1A8 (io), 48 I/O36 1A7 (io), 49 I/O37 1A4 (io), 50 I/O38 1A3 (io), 51 I/O39 1A2 (io), 54 I/O40 2A13 (io), 55 I/O41 2A12 (io), 56 I/O42 2A11 (io), 57 I/O43 2A8 (io), 58 I/O44 2A7 (io), 59 I/O45 2A4 (io), 60 I/O46 2A3 (io), 61 I/O47 2A2 (io), 64 I/O48 2B0 (io), 65 I/O49 2B1 (io), 66 I/O50 2B2 (io), 67 I/O51 2B3 (io), 68 I/O52 2B4 (io), 69 I/O53 2B5 (io), 70 I/O54 2B6 (io), 71 I/O55 2B7 (io), 73 I/O56 2B8 (io), 74 I/O57 2B11 (io), 75 I/O58 2B12 (io), 76 I/O59 2B13 (io), 81 I/O60 3B13 (io), 82 I/O61 3B12 (io), 83 I/O62 3B11 (io), 84 I/O63 3B8 (io), 86 I/O64 3B7 (io), 87 I/O65 3B6 (io), 88 I/O66 3B5 (io), 89 I/O67 3B4 (io), 90 I/O68 3B3 (io), 91 I/O69 3B2 (io), 92 I/O70 3B1 (io), 93 I/O71 3B0 (io), 96 I/O72 3A2 (io), 97 I/O73 3A3 (io), 98 I/O74 3A4 (io), 99 I/O75 3A7 (io), 100 I/O76 3A8 (io), 101 I/O77 3A11 (io), 102 I/O78 3A12 (io), 103 I/O79 3A13 (io), 106 I/O80 4A2 (io), 107 I/O81 4A3 (io), 108 I/O82 4A4 (io), 109 I/O83 4A7 (io), 110 I/O84 4A8 (io), 111 I/O85 4A11 (io), 112 I/O86 4A12 (io), 113 I/O87 4A13 (io), 116 I/O88 4D15 (io), 117 I/O89 4D14 (io), 118 I/O90 4D13 (io), 119 I/O91 4D12 (io), 120 I/O92 4D11 (io), 121 I/O93 4D10 (io), 122 I/O94 4D9 (io), 123 I/O95 4D8 (io), 125 I/O96 4D7 (io), 126 I/O97 4D4 (io), 127 I/O98 4D3 (io), 128 I/O99 4D2 (io), 133 I/O100 5D2 (io), 134 I/O101 5D3 (io), 135 I/O102 5D4 (io), 136 I/O103 5D7 (io), 138 I/O104 5D8 (io), 139 I/O105 5D9 (io), 140 I/O106 5D10 (io), 141 I/O107 5D11 (io), 142 I/O108 5D12 (io), 143 I/O109 5D13 (io), 144 I/O110 5D14 (io), 145 I/O111 5D15 (io), 148 I/O112 5A13 (io), 149 I/O113 5A12 (io), 150 I/O114 5A11 (io), 151 I/O115 5A8 (io), 152 I/O116 5A7 (io), 153 I/O117 5A4 (io), 154 I/O118 5A3 (io), 155 I/O119 5A2 (io), 158 I/O120 6A13 (io), 159 I/O121 6A12 (io), 160 I/O122 6A11 (io), 161 I/O123 6A8 (io), 162 I/O124 6A7 (io), 163 I/O125 6A4 (io), 164 I/O126 6A3 (io), 165 I/O127 6A2 (io), 168 I/O128 6B0 (io), 169 I/O129 6B1 (io), 170 I/O130 6B2 (io), 171 I/O131 6B3 (io), 172 I/O132 6B4 (io), 173 I/O133 6B5 (io), 174 I/O134 6B6 (io), 175 I/O135 6B7 (io), 177 I/O136 6B8 (io), 178 I/O137 6B11 (io), 179 I/O138 6B12 (io), 180 I/O139 6B13 (io), 185 I/O140 7B13 (io), 186 I/O141 7B12 (io), 187 I/O142 7B11 (io), 188 I/O143 7B8 (io), 190 I/O144 7B7 (io), 191 I/O145 7B6 (io), 192 I/O146 7B5 (io), 193 I/O147 7B4 (io), 194 I/O148 7B3 (io), 195 I/O149 7B2 (io), 196 I/O150 7B1 (io), 197 I/O151 7B0 (io), 200 I/O152 7A2 (io), 201 I/O153 7A3 (io), 202 I/O154 7A4 (io), 203 I/O155 7A7 (io), 204 I/O156 7A8 (io), 205 I/O157 7A11 (io), 206 I/O158 7A12 (io), 207 I/O159 7A13 (io)
part B pins: 1 TDI (in), 10 VCC (power), 11 GND (power), 20 GND (power), 25 I0/CLK0 (in), 26 VCC (power), 27 GND (power), 28 I1/CLK1 (in), 33 GND (power), 42 GND (power), 43 VCC (power), 52 TCK (in), 53 GND (power), 62 GND (power), 63 VCC (power), 72 GND (power), 77 VCC (power), 78 GND (power), 79 GND (power), 80 VCC (power), 85 GND (power), 94 VCC (power), 95 GND (power), 104 GND (power), 105 TMS (in), 114 VCC (power), 115 GND (power), 124 GND (power), 129 I2/CLK2 (in), 130 VCC (power), 131 GND (power), 132 I3/CLK3 (in), 137 GND (power), 146 GND (power), 147 VCC (power), 156 TDO (out), 157 GND (power), 166 GND (power), 167 VCC (power), 176 GND (power), 181 VCC (power), 182 GND (power), 183 GND (power), 184 VCC (power), 189 GND (power), 198 VCC (power), 199 GND (power), 208 GND (power)

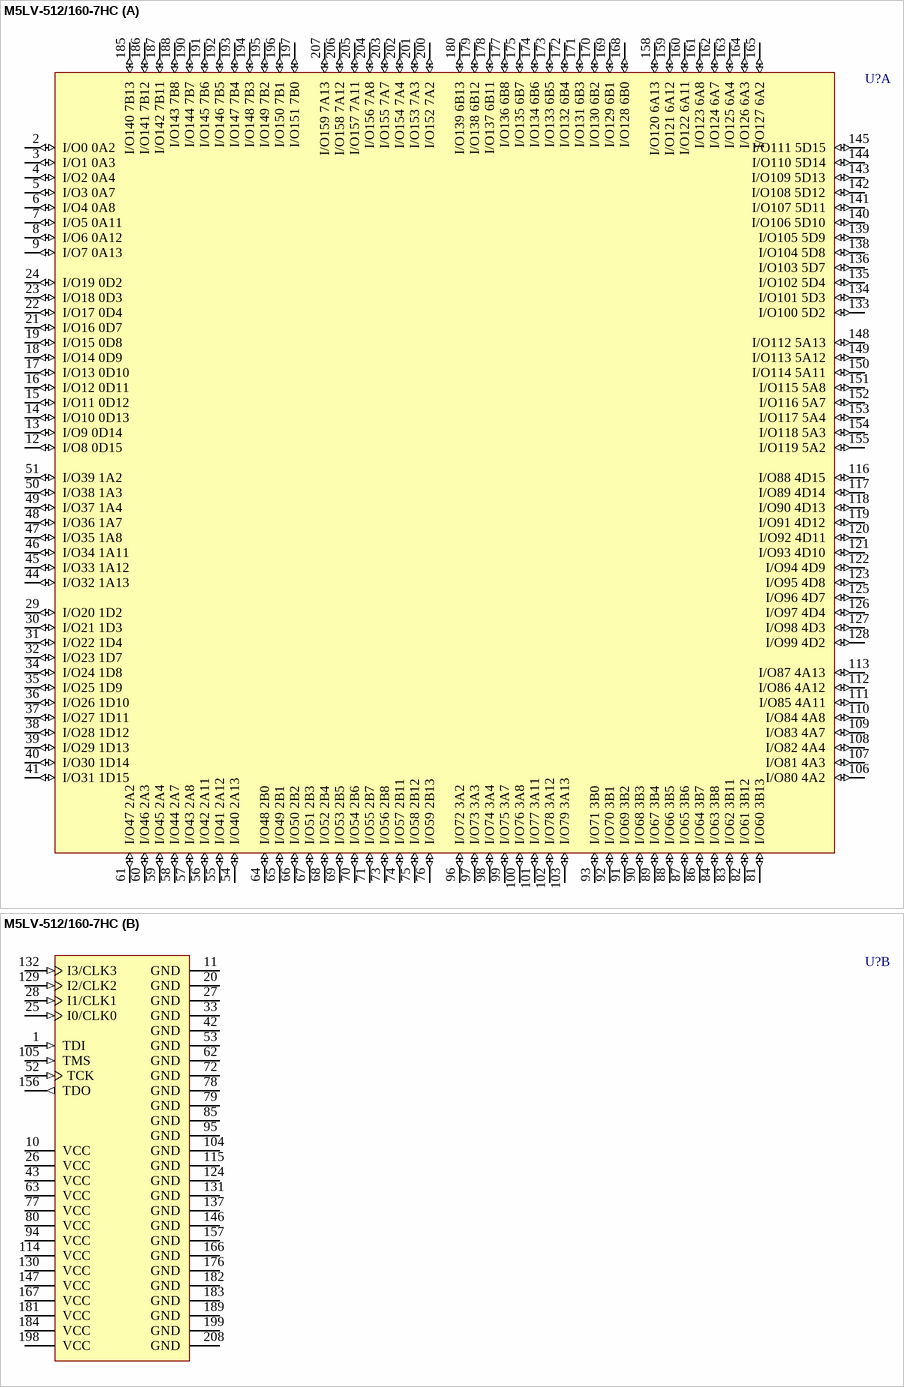
[diagram p263: symbol M5LV-512/160-7HC]

## M5LV-512/160-7HC
designator U?
High-Density and High-I/O Complex PLD; Published: 23-Sep-2002; LatestRevisionDate: 13-Apr-2006; LatestRevisionNote: IPC-7351 Footprint Added.; DatasheetVersion: Sep-2000; PackageVersion: Sep-2000; PackageReference: MQFP208; Publisher: Altium Limited; PackageDescription: 208-Pin Shrink Quad Flat Pack 0.5 mm Pitch; ComponentLink1Description: Manufacturer Link; ComponentLink1URL: http://www.latticesemi.com/products/mature/index.cfm; ComponentLink2Description: Datasheet; ComponentLink2URL: http://www.latticesemi.com/lit/docs/datasheets/cpld/mach5.pdf
footprint MQFP208_N (Shrink QFP, 208-Leads, Body 27.7x27.7mm, Pitch 0.5mm, IPC Medium Density)
footprint MQFP208_L (Shrink QFP, 208-Leads, Body 27.7x27.7mm, Pitch 0.5mm, IPC High Density)
footprint MQFP208_M (Shrink QFP, 208-Leads, Body 27.7x27.7mm, Pitch 0.5mm, IPC Low Density)
3D model M5LV-MQFP208 (208-Pin Shrink Quad Flat Pack 0.5 mm Pitch)
part A pins: 2 I/O0 0A2 (io), 3 I/O1 0A3 (io), 4 I/O2 0A4 (io), 5 I/O3 0A7 (io), 6 I/O4 0A8 (io), 7 I/O5 0A11 (io), 8 I/O6 0A12 (io), 9 I/O7 0A13 (io), 12 I/O8 0D15 (io), 13 I/O9 0D14 (io), 14 I/O10 0D13 (io), 15 I/O11 0D12 (io), 16 I/O12 0D11 (io), 17 I/O13 0D10 (io), 18 I/O14 0D9 (io), 19 I/O15 0D8 (io), 21 I/O16 0D7 (io), 22 I/O17 0D4 (io), 23 I/O18 0D3 (io), 24 I/O19 0D2 (io), 29 I/O20 1D2 (io), 30 I/O21 1D3 (io), 31 I/O22 1D4 (io), 32 I/O23 1D7 (io), 34 I/O24 1D8 (io), 35 I/O25 1D9 (io), 36 I/O26 1D10 (io), 37 I/O27 1D11 (io), 38 I/O28 1D12 (io), 39 I/O29 1D13 (io), 40 I/O30 1D14 (io), 41 I/O31 1D15 (io), 44 I/O32 1A13 (io), 45 I/O33 1A12 (io), 46 I/O34 1A11 (io), 47 I/O35 1A8 (io), 48 I/O36 1A7 (io), 49 I/O37 1A4 (io), 50 I/O38 1A3 (io), 51 I/O39 1A2 (io), 54 I/O40 2A13 (io), 55 I/O41 2A12 (io), 56 I/O42 2A11 (io), 57 I/O43 2A8 (io), 58 I/O44 2A7 (io), 59 I/O45 2A4 (io), 60 I/O46 2A3 (io), 61 I/O47 2A2 (io), 64 I/O48 2B0 (io), 65 I/O49 2B1 (io), 66 I/O50 2B2 (io), 67 I/O51 2B3 (io), 68 I/O52 2B4 (io), 69 I/O53 2B5 (io), 70 I/O54 2B6 (io), 71 I/O55 2B7 (io), 73 I/O56 2B8 (io), 74 I/O57 2B11 (io), 75 I/O58 2B12 (io), 76 I/O59 2B13 (io), 81 I/O60 3B13 (io), 82 I/O61 3B12 (io), 83 I/O62 3B11 (io), 84 I/O63 3B8 (io), 86 I/O64 3B7 (io), 87 I/O65 3B6 (io), 88 I/O66 3B5 (io), 89 I/O67 3B4 (io), 90 I/O68 3B3 (io), 91 I/O69 3B2 (io), 92 I/O70 3B1 (io), 93 I/O71 3B0 (io), 96 I/O72 3A2 (io), 97 I/O73 3A3 (io), 98 I/O74 3A4 (io), 99 I/O75 3A7 (io), 100 I/O76 3A8 (io), 101 I/O77 3A11 (io), 102 I/O78 3A12 (io), 103 I/O79 3A13 (io), 106 I/O80 4A2 (io), 107 I/O81 4A3 (io), 108 I/O82 4A4 (io), 109 I/O83 4A7 (io), 110 I/O84 4A8 (io), 111 I/O85 4A11 (io), 112 I/O86 4A12 (io), 113 I/O87 4A13 (io), 116 I/O88 4D15 (io), 117 I/O89 4D14 (io), 118 I/O90 4D13 (io), 119 I/O91 4D12 (io), 120 I/O92 4D11 (io), 121 I/O93 4D10 (io), 122 I/O94 4D9 (io), 123 I/O95 4D8 (io), 125 I/O96 4D7 (io), 126 I/O97 4D4 (io), 127 I/O98 4D3 (io), 128 I/O99 4D2 (io), 133 I/O100 5D2 (io), 134 I/O101 5D3 (io), 135 I/O102 5D4 (io), 136 I/O103 5D7 (io), 138 I/O104 5D8 (io), 139 I/O105 5D9 (io), 140 I/O106 5D10 (io), 141 I/O107 5D11 (io), 142 I/O108 5D12 (io), 143 I/O109 5D13 (io), 144 I/O110 5D14 (io), 145 I/O111 5D15 (io), 148 I/O112 5A13 (io), 149 I/O113 5A12 (io), 150 I/O114 5A11 (io), 151 I/O115 5A8 (io), 152 I/O116 5A7 (io), 153 I/O117 5A4 (io), 154 I/O118 5A3 (io), 155 I/O119 5A2 (io), 158 I/O120 6A13 (io), 159 I/O121 6A12 (io), 160 I/O122 6A11 (io), 161 I/O123 6A8 (io), 162 I/O124 6A7 (io), 163 I/O125 6A4 (io), 164 I/O126 6A3 (io), 165 I/O127 6A2 (io), 168 I/O128 6B0 (io), 169 I/O129 6B1 (io), 170 I/O130 6B2 (io), 171 I/O131 6B3 (io), 172 I/O132 6B4 (io), 173 I/O133 6B5 (io), 174 I/O134 6B6 (io), 175 I/O135 6B7 (io), 177 I/O136 6B8 (io), 178 I/O137 6B11 (io), 179 I/O138 6B12 (io), 180 I/O139 6B13 (io), 185 I/O140 7B13 (io), 186 I/O141 7B12 (io), 187 I/O142 7B11 (io), 188 I/O143 7B8 (io), 190 I/O144 7B7 (io), 191 I/O145 7B6 (io), 192 I/O146 7B5 (io), 193 I/O147 7B4 (io), 194 I/O148 7B3 (io), 195 I/O149 7B2 (io), 196 I/O150 7B1 (io), 197 I/O151 7B0 (io), 200 I/O152 7A2 (io), 201 I/O153 7A3 (io), 202 I/O154 7A4 (io), 203 I/O155 7A7 (io), 204 I/O156 7A8 (io), 205 I/O157 7A11 (io), 206 I/O158 7A12 (io), 207 I/O159 7A13 (io)
part B pins: 1 TDI (in), 10 VCC (power), 11 GND (power), 20 GND (power), 25 I0/CLK0 (in), 26 VCC (power), 27 GND (power), 28 I1/CLK1 (in), 33 GND (power), 42 GND (power), 43 VCC (power), 52 TCK (in), 53 GND (power), 62 GND (power), 63 VCC (power), 72 GND (power), 77 VCC (power), 78 GND (power), 79 GND (power), 80 VCC (power), 85 GND (power), 94 VCC (power), 95 GND (power), 104 GND (power), 105 TMS (in), 114 VCC (power), 115 GND (power), 124 GND (power), 129 I2/CLK2 (in), 130 VCC (power), 131 GND (power), 132 I3/CLK3 (in), 137 GND (power), 146 GND (power), 147 VCC (power), 156 TDO (out), 157 GND (power), 166 GND (power), 167 VCC (power), 176 GND (power), 181 VCC (power), 182 GND (power), 183 GND (power), 184 VCC (power), 189 GND (power), 198 VCC (power), 199 GND (power), 208 GND (power)

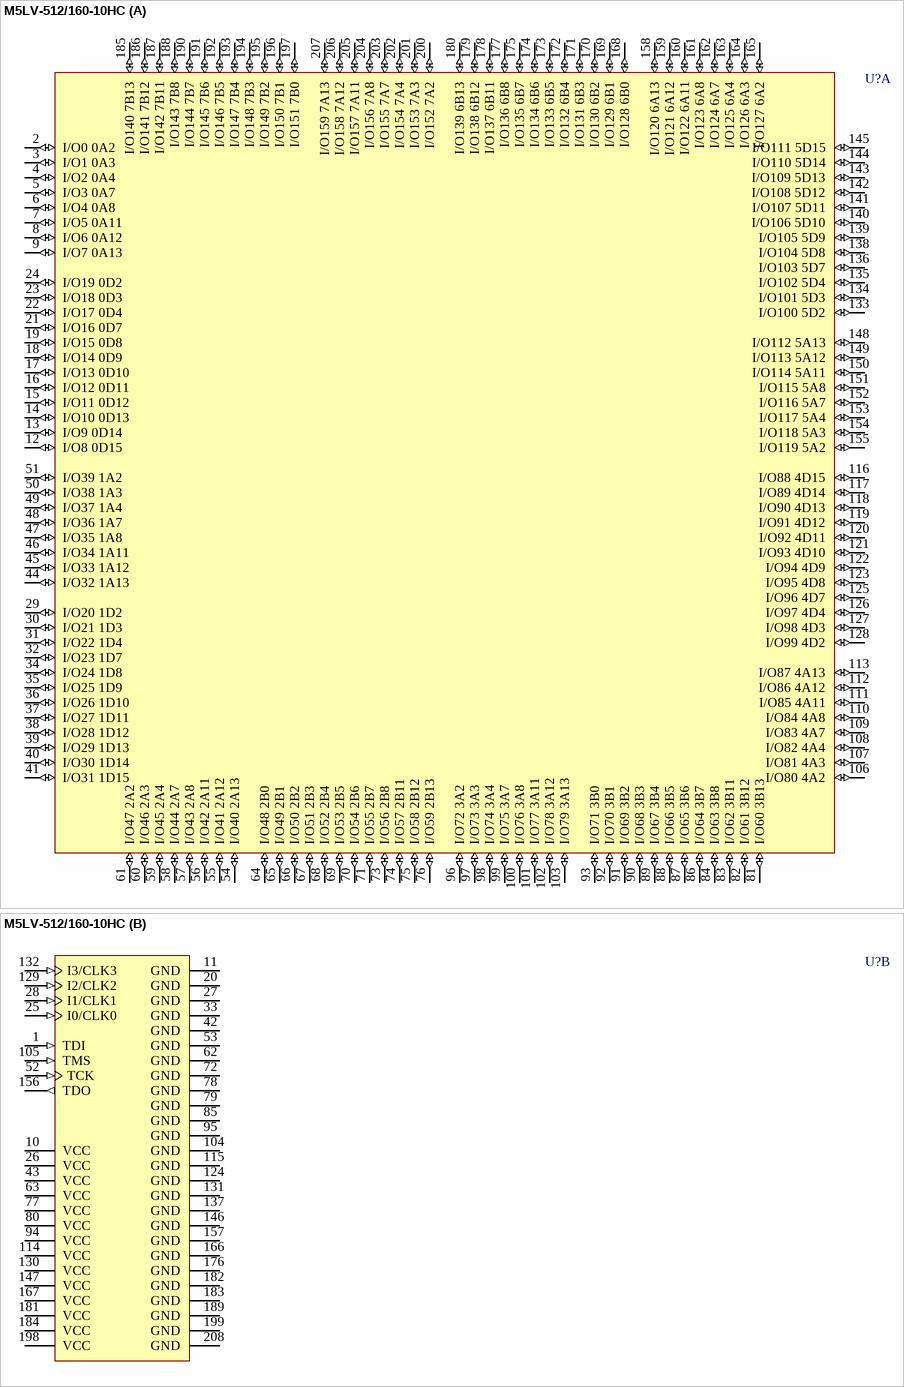
[diagram p264: symbol M5LV-512/160-10HC]